# Altium integrated library Altera FLEX 10K.IntLib: 292 symbols (part 15 of 37)
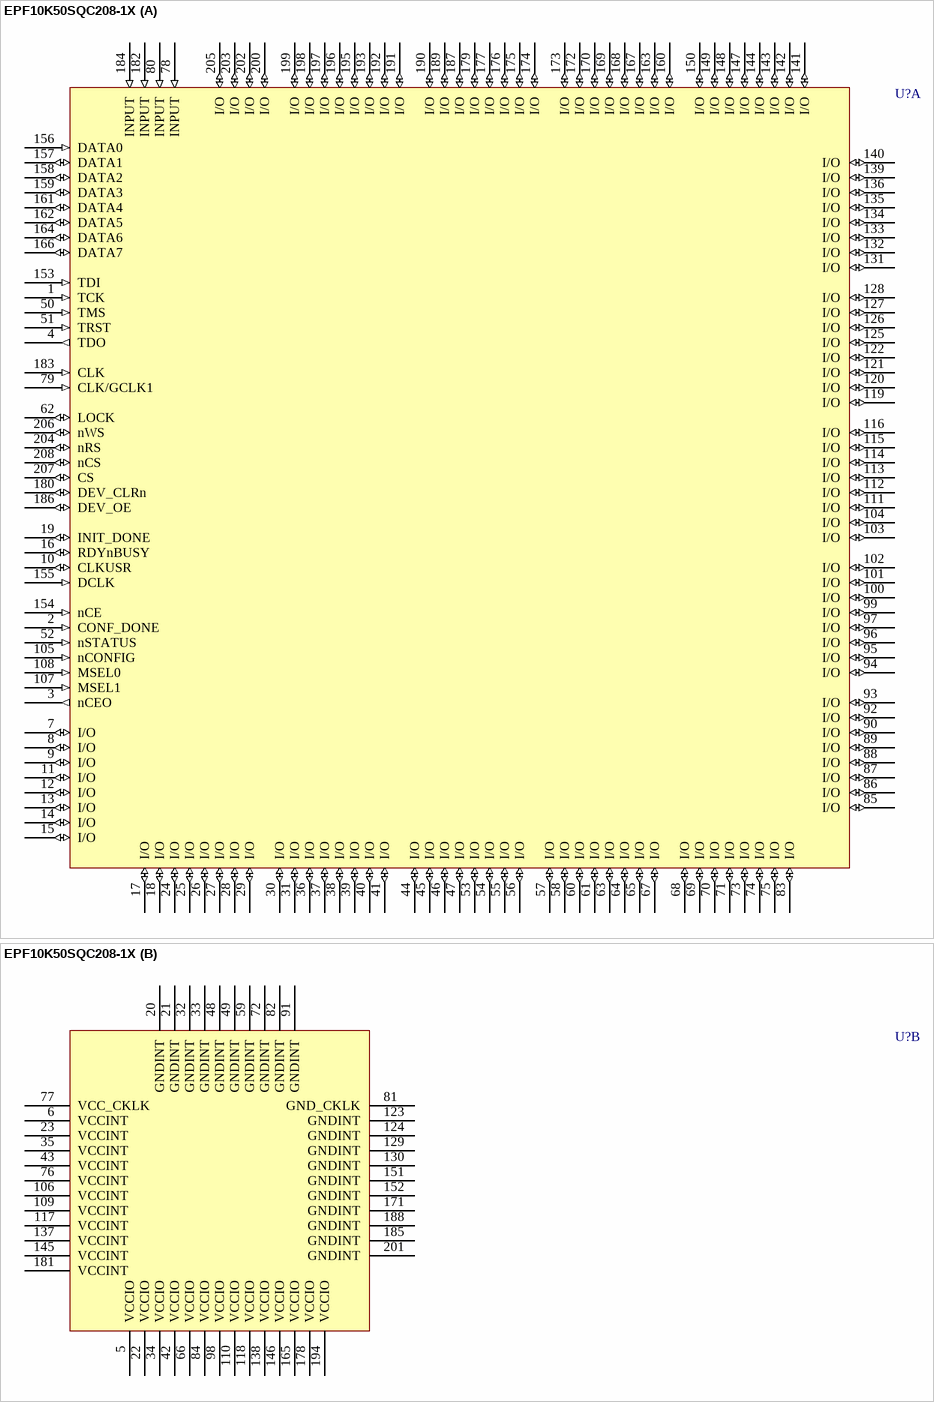
[diagram p413: symbol EPF10K50SQC208-1X]

## EPF10K50SQC208-1X
designator U?
FLEX EPF10K50S 2.5V Embedded PLD, 147 User IO Pins, 208-Pin PQFP, Speed Grade 1, Commercial Grade; Published: 17-Jul-2002; LatestRevisionDate: 13-Apr-2006; LatestRevisionNote: IPC-7351 Footprint Added.; DatasheetVersion: ver4.2, Jan-2003; PackageVersion: ver14.1, Oct-2005; PackageReference: PQFP208; Publisher: Altium Limited; PackageDescription: 208-Pin Plastic Quad Flat Pack (PQFP208); Code_JEDEC: MS-029-FA-1; ComponentLink1Description: Manufacturer Link; ComponentLink1URL: http://www.altera.com/products/devices/flex10k/f10-index.html; ComponentLink2Description: Datasheet; ComponentLink2URL: http://www.altera.com/literature/ds/dsf10ke.pdf
footprint PQFP208_N (Shrink QFP, 208-Leads, Body 28x28mm, Pitch 0.5mm, IPC Medium Density)
footprint PQFP208_L (Shrink QFP, 208-Leads, Body 28x28mm, Pitch 0.5mm, IPC High Density)
footprint PQFP208_M (Shrink QFP, 208-Leads, Body 28x28mm, Pitch 0.5mm, IPC Low Density)
3D model EPF10K50S-PQFP208 (208-Pin Plastic Quad Flat Pack (PQFP208))
part A pins: 1 TCK (in), 2 CONF_DONE (in), 3 nCEO (out), 4 TDO (out), 7 I/O (io), 8 I/O (io), 9 I/O (io), 10 CLKUSR (io), 11 I/O (io), 12 I/O (io), 13 I/O (io), 14 I/O (io), 15 I/O (io), 16 RDYnBUSY (io), 17 I/O (io), 18 I/O (io), 19 INIT_DONE (io), 24 I/O (io), 25 I/O (io), 26 I/O (io), 27 I/O (io), 28 I/O (io), 29 I/O (io), 30 I/O (io), 31 I/O (io), 36 I/O (io), 37 I/O (io), 38 I/O (io), 39 I/O (io), 40 I/O (io), 41 I/O (io), 44 I/O (io), 45 I/O (io), 46 I/O (io), 47 I/O (io), 50 TMS (in), 51 TRST (in), 52 nSTATUS (in), 53 I/O (io), 54 I/O (io), 55 I/O (io), 56 I/O (io), 57 I/O (io), 58 I/O (io), 60 I/O (io), 61 I/O (io), 62 LOCK (io), 63 I/O (io), 64 I/O (io), 65 I/O (io), 67 I/O (io), 68 I/O (io), 69 I/O (io), 70 I/O (io), 71 I/O (io), 73 I/O (io), 74 I/O (io), 75 I/O (io), 78 INPUT (in), 79 CLK/GCLK1 (in), 80 INPUT (in), 83 I/O (io), 85 I/O (io), 86 I/O (io), 87 I/O (io), 88 I/O (io), 89 I/O (io), 90 I/O (io), 92 I/O (io), 93 I/O (io), 94 I/O (io), 95 I/O (io), 96 I/O (io), 97 I/O (io), 99 I/O (io), 100 I/O (io), 101 I/O (io), 102 I/O (io), 103 I/O (io), 104 I/O (io), 105 nCONFIG (in), 107 MSEL1 (in), 108 MSEL0 (in), 111 I/O (io), 112 I/O (io), 113 I/O (io), 114 I/O (io), 115 I/O (io), 116 I/O (io), 119 I/O (io), 120 I/O (io), 121 I/O (io), 122 I/O (io), 125 I/O (io), 126 I/O (io), 127 I/O (io), 128 I/O (io), 131 I/O (io), 132 I/O (io), 133 I/O (io), 134 I/O (io), 135 I/O (io), 136 I/O (io), 139 I/O (io), 140 I/O (io), 141 I/O (io), 142 I/O (io), 143 I/O (io), 144 I/O (io), 147 I/O (io), 148 I/O (io), 149 I/O (io), 150 I/O (io), 153 TDI (in), 154 nCE (in), 155 DCLK (in), 156 DATA0 (in), 157 DATA1 (io), 158 DATA2 (io), 159 DATA3 (io), 160 I/O (io), 161 DATA4 (io), 162 DATA5 (io), 163 I/O (io), 164 DATA6 (io), 166 DATA7 (io), 167 I/O (io), 168 I/O (io), 169 I/O (io), 170 I/O (io), 172 I/O (io), 173 I/O (io), 174 I/O (io), 175 I/O (io), 176 I/O (io), 177 I/O (io), 179 I/O (io), 180 DEV_CLRn (io), 182 INPUT (in), 183 CLK (in), 184 INPUT (in), 186 DEV_OE (io), 187 I/O (io), 189 I/O (io), 190 I/O (io), 191 I/O (io), 192 I/O (io), 193 I/O (io), 195 I/O (io), 196 I/O (io), 197 I/O (io), 198 I/O (io), 199 I/O (io), 200 I/O (io), 202 I/O (io), 203 I/O (io), 204 nRS (io), 205 I/O (io), 206 nWS (io), 207 CS (io), 208 nCS (io)
part B pins: 5 VCCIO (power), 6 VCCINT (power), 20 GNDINT (power), 21 GNDINT (power), 22 VCCIO (power), 23 VCCINT (power), 32 GNDINT (power), 33 GNDINT (power), 34 VCCIO (power), 35 VCCINT (power), 42 VCCIO (power), 43 VCCINT (power), 48 GNDINT (power), 49 GNDINT (power), 59 GNDINT (power), 66 VCCIO (power), 72 GNDINT (power), 76 VCCINT (power), 77 VCC_CKLK (power), 81 GND_CKLK (power), 82 GNDINT (power), 84 VCCIO (power), 91 GNDINT (power), 98 VCCIO (power), 106 VCCINT (power), 109 VCCINT (power), 110 VCCIO (power), 117 VCCINT (power), 118 VCCIO (power), 123 GNDINT (power), 124 GNDINT (power), 129 GNDINT (power), 130 GNDINT (power), 137 VCCINT (power), 138 VCCIO (power), 145 VCCINT (power), 146 VCCIO (power), 151 GNDINT (power), 152 GNDINT (power), 165 VCCIO (power), 171 GNDINT (power), 178 VCCIO (power), 181 VCCINT (power), 185 GNDINT (power), 188 GNDINT (power), 194 VCCIO (power), 201 GNDINT (power)

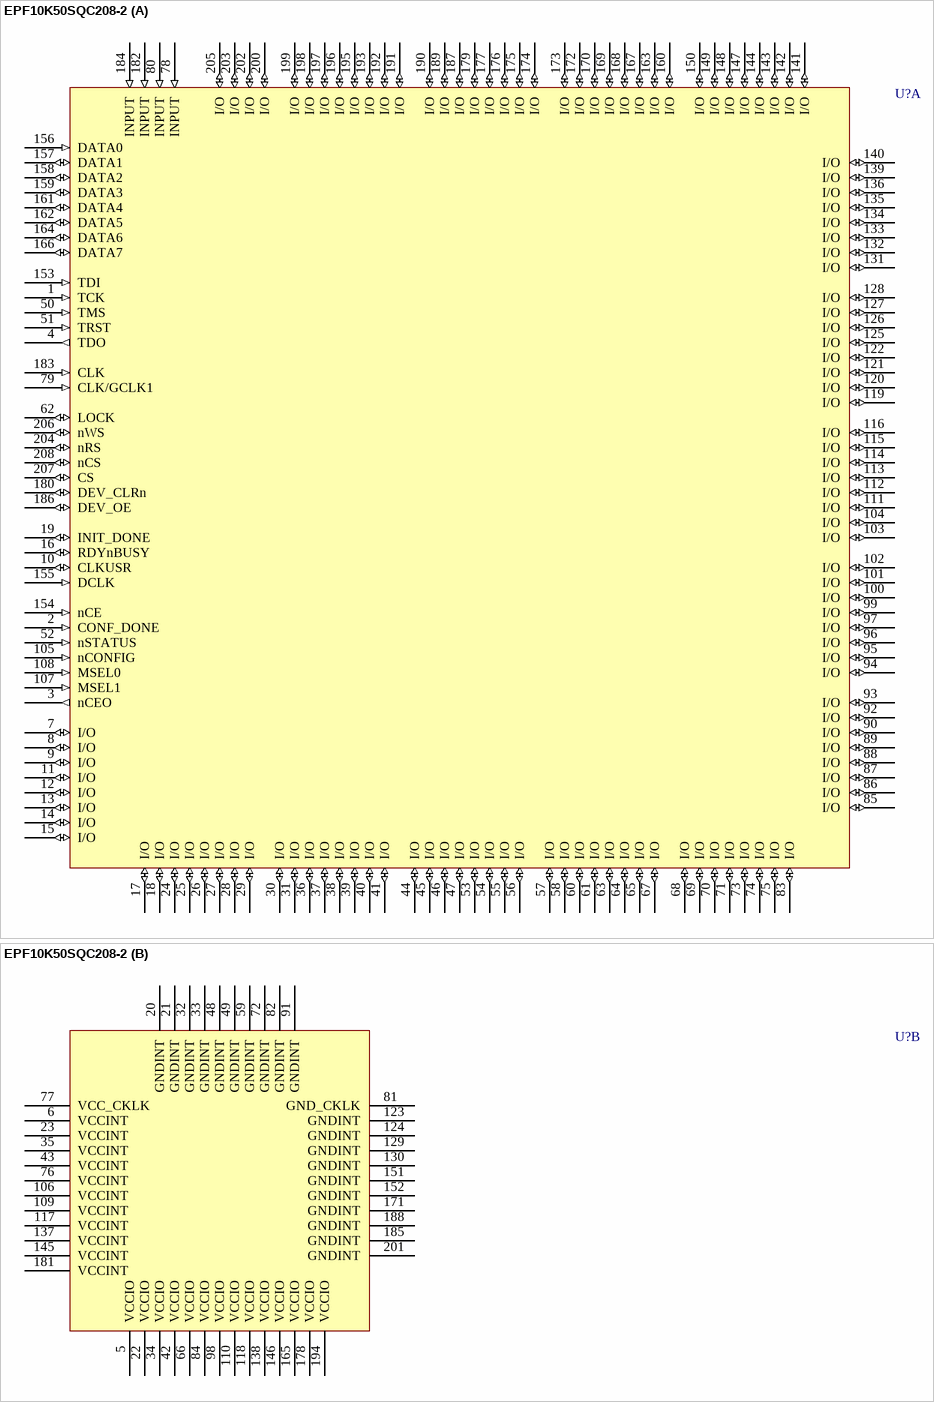
[diagram p143: symbol EPF10K50SQC208-2]

## EPF10K50SQC208-2
designator U?
FLEX EPF10K50S 2.5V Embedded PLD, 147 User IO Pins, 208-Pin PQFP, Speed Grade 2, Commercial Grade; Published: 17-Jul-2002; LatestRevisionDate: 13-Apr-2006; LatestRevisionNote: IPC-7351 Footprint Added.; DatasheetVersion: Jan-2001; PackageVersion: ver14.1, Oct-2005; PackageReference: PQFP208; Publisher: Altium Limited; PackageDescription: 208-Pin Plastic Quad Flat Pack (PQFP208); Code_JEDEC: MS-029-FA-1; ComponentLink1Description: Manufacturer Link; ComponentLink1URL: http://www.altera.com/products/devices/flex10k/f10-index.html; ComponentLink2Description: Datasheet; ComponentLink2URL: http://www.altera.com/literature/ds/dsf10ke.pdf
footprint PQFP208_N (Shrink QFP, 208-Leads, Body 28x28mm, Pitch 0.5mm, IPC Medium Density)
footprint PQFP208_L (Shrink QFP, 208-Leads, Body 28x28mm, Pitch 0.5mm, IPC High Density)
footprint PQFP208_M (Shrink QFP, 208-Leads, Body 28x28mm, Pitch 0.5mm, IPC Low Density)
3D model EPF10K50S-PQFP208 (208-Pin Plastic Quad Flat Pack (PQFP208))
part A pins: 1 TCK (in), 2 CONF_DONE (in), 3 nCEO (out), 4 TDO (out), 7 I/O (io), 8 I/O (io), 9 I/O (io), 10 CLKUSR (io), 11 I/O (io), 12 I/O (io), 13 I/O (io), 14 I/O (io), 15 I/O (io), 16 RDYnBUSY (io), 17 I/O (io), 18 I/O (io), 19 INIT_DONE (io), 24 I/O (io), 25 I/O (io), 26 I/O (io), 27 I/O (io), 28 I/O (io), 29 I/O (io), 30 I/O (io), 31 I/O (io), 36 I/O (io), 37 I/O (io), 38 I/O (io), 39 I/O (io), 40 I/O (io), 41 I/O (io), 44 I/O (io), 45 I/O (io), 46 I/O (io), 47 I/O (io), 50 TMS (in), 51 TRST (in), 52 nSTATUS (in), 53 I/O (io), 54 I/O (io), 55 I/O (io), 56 I/O (io), 57 I/O (io), 58 I/O (io), 60 I/O (io), 61 I/O (io), 62 LOCK (io), 63 I/O (io), 64 I/O (io), 65 I/O (io), 67 I/O (io), 68 I/O (io), 69 I/O (io), 70 I/O (io), 71 I/O (io), 73 I/O (io), 74 I/O (io), 75 I/O (io), 78 INPUT (in), 79 CLK/GCLK1 (in), 80 INPUT (in), 83 I/O (io), 85 I/O (io), 86 I/O (io), 87 I/O (io), 88 I/O (io), 89 I/O (io), 90 I/O (io), 92 I/O (io), 93 I/O (io), 94 I/O (io), 95 I/O (io), 96 I/O (io), 97 I/O (io), 99 I/O (io), 100 I/O (io), 101 I/O (io), 102 I/O (io), 103 I/O (io), 104 I/O (io), 105 nCONFIG (in), 107 MSEL1 (in), 108 MSEL0 (in), 111 I/O (io), 112 I/O (io), 113 I/O (io), 114 I/O (io), 115 I/O (io), 116 I/O (io), 119 I/O (io), 120 I/O (io), 121 I/O (io), 122 I/O (io), 125 I/O (io), 126 I/O (io), 127 I/O (io), 128 I/O (io), 131 I/O (io), 132 I/O (io), 133 I/O (io), 134 I/O (io), 135 I/O (io), 136 I/O (io), 139 I/O (io), 140 I/O (io), 141 I/O (io), 142 I/O (io), 143 I/O (io), 144 I/O (io), 147 I/O (io), 148 I/O (io), 149 I/O (io), 150 I/O (io), 153 TDI (in), 154 nCE (in), 155 DCLK (in), 156 DATA0 (in), 157 DATA1 (io), 158 DATA2 (io), 159 DATA3 (io), 160 I/O (io), 161 DATA4 (io), 162 DATA5 (io), 163 I/O (io), 164 DATA6 (io), 166 DATA7 (io), 167 I/O (io), 168 I/O (io), 169 I/O (io), 170 I/O (io), 172 I/O (io), 173 I/O (io), 174 I/O (io), 175 I/O (io), 176 I/O (io), 177 I/O (io), 179 I/O (io), 180 DEV_CLRn (io), 182 INPUT (in), 183 CLK (in), 184 INPUT (in), 186 DEV_OE (io), 187 I/O (io), 189 I/O (io), 190 I/O (io), 191 I/O (io), 192 I/O (io), 193 I/O (io), 195 I/O (io), 196 I/O (io), 197 I/O (io), 198 I/O (io), 199 I/O (io), 200 I/O (io), 202 I/O (io), 203 I/O (io), 204 nRS (io), 205 I/O (io), 206 nWS (io), 207 CS (io), 208 nCS (io)
part B pins: 5 VCCIO (power), 6 VCCINT (power), 20 GNDINT (power), 21 GNDINT (power), 22 VCCIO (power), 23 VCCINT (power), 32 GNDINT (power), 33 GNDINT (power), 34 VCCIO (power), 35 VCCINT (power), 42 VCCIO (power), 43 VCCINT (power), 48 GNDINT (power), 49 GNDINT (power), 59 GNDINT (power), 66 VCCIO (power), 72 GNDINT (power), 76 VCCINT (power), 77 VCC_CKLK (power), 81 GND_CKLK (power), 82 GNDINT (power), 84 VCCIO (power), 91 GNDINT (power), 98 VCCIO (power), 106 VCCINT (power), 109 VCCINT (power), 110 VCCIO (power), 117 VCCINT (power), 118 VCCIO (power), 123 GNDINT (power), 124 GNDINT (power), 129 GNDINT (power), 130 GNDINT (power), 137 VCCINT (power), 138 VCCIO (power), 145 VCCINT (power), 146 VCCIO (power), 151 GNDINT (power), 152 GNDINT (power), 165 VCCIO (power), 171 GNDINT (power), 178 VCCIO (power), 181 VCCINT (power), 185 GNDINT (power), 188 GNDINT (power), 194 VCCIO (power), 201 GNDINT (power)

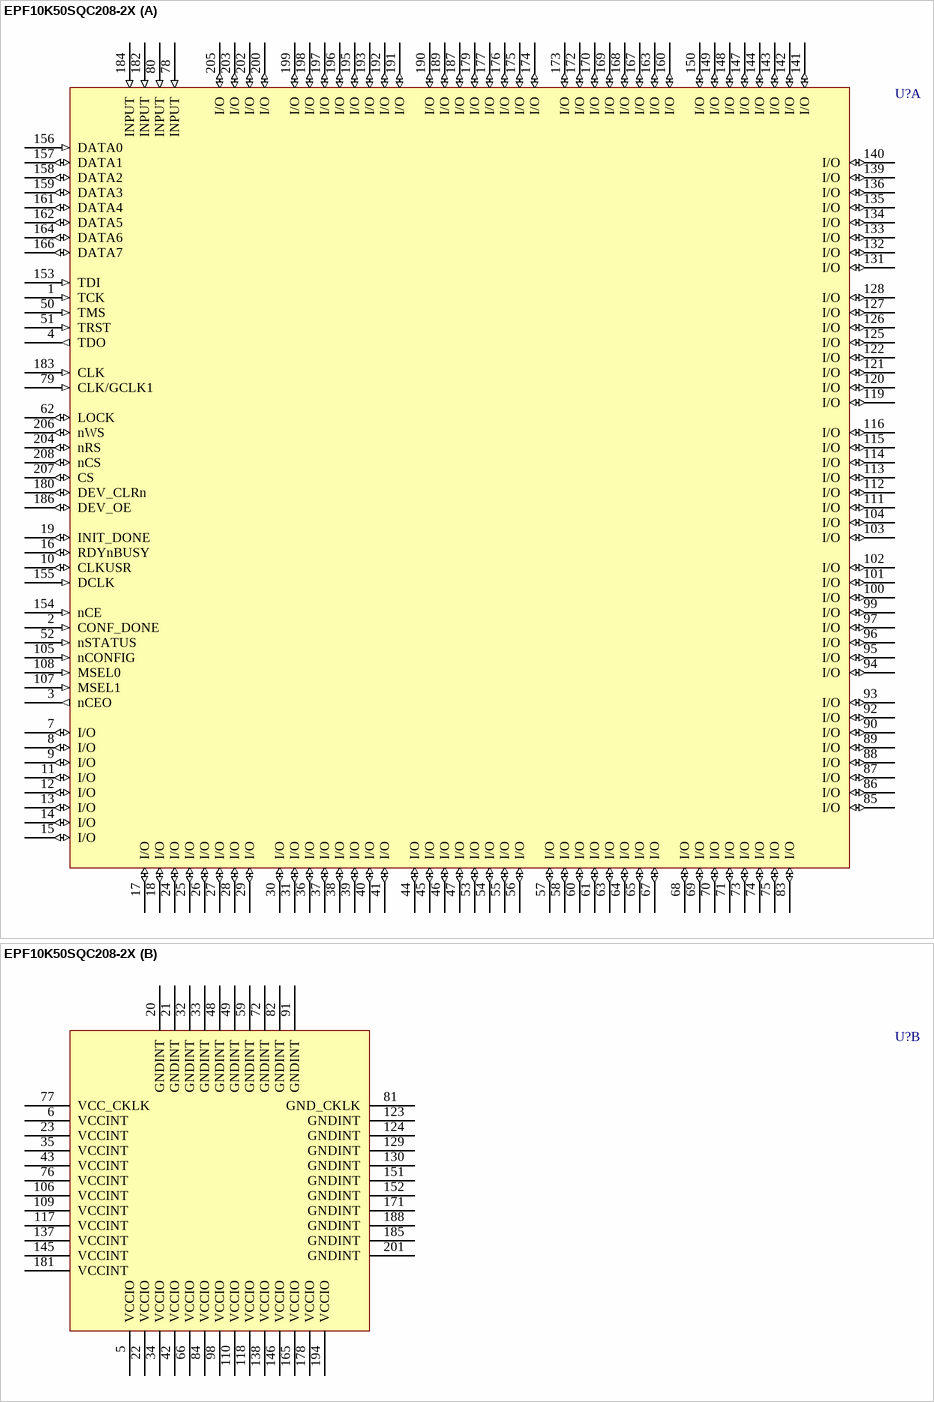
[diagram p144: symbol EPF10K50SQC208-2X]

## EPF10K50SQC208-2X
designator U?
FLEX EPF10K50S 2.5V Embedded PLD, 147 User IO Pins, 208-Pin PQFP, Speed Grade 2, Commercial Grade; Published: 17-Jul-2002; LatestRevisionDate: 13-Apr-2006; LatestRevisionNote: IPC-7351 Footprint Added.; DatasheetVersion: Jan-2001; PackageVersion: ver14.1, Oct-2005; PackageReference: PQFP208; Publisher: Altium Limited; PackageDescription: 208-Pin Plastic Quad Flat Pack (PQFP208); Code_JEDEC: MS-029-FA-1; ComponentLink1Description: Manufacturer Link; ComponentLink1URL: http://www.altera.com/products/devices/flex10k/f10-index.html; ComponentLink2Description: Datasheet; ComponentLink2URL: http://www.altera.com/literature/ds/dsf10ke.pdf
footprint PQFP208_N (Shrink QFP, 208-Leads, Body 28x28mm, Pitch 0.5mm, IPC Medium Density)
footprint PQFP208_L (Shrink QFP, 208-Leads, Body 28x28mm, Pitch 0.5mm, IPC High Density)
footprint PQFP208_M (Shrink QFP, 208-Leads, Body 28x28mm, Pitch 0.5mm, IPC Low Density)
3D model EPF10K50S-PQFP208 (208-Pin Plastic Quad Flat Pack (PQFP208))
part A pins: 1 TCK (in), 2 CONF_DONE (in), 3 nCEO (out), 4 TDO (out), 7 I/O (io), 8 I/O (io), 9 I/O (io), 10 CLKUSR (io), 11 I/O (io), 12 I/O (io), 13 I/O (io), 14 I/O (io), 15 I/O (io), 16 RDYnBUSY (io), 17 I/O (io), 18 I/O (io), 19 INIT_DONE (io), 24 I/O (io), 25 I/O (io), 26 I/O (io), 27 I/O (io), 28 I/O (io), 29 I/O (io), 30 I/O (io), 31 I/O (io), 36 I/O (io), 37 I/O (io), 38 I/O (io), 39 I/O (io), 40 I/O (io), 41 I/O (io), 44 I/O (io), 45 I/O (io), 46 I/O (io), 47 I/O (io), 50 TMS (in), 51 TRST (in), 52 nSTATUS (in), 53 I/O (io), 54 I/O (io), 55 I/O (io), 56 I/O (io), 57 I/O (io), 58 I/O (io), 60 I/O (io), 61 I/O (io), 62 LOCK (io), 63 I/O (io), 64 I/O (io), 65 I/O (io), 67 I/O (io), 68 I/O (io), 69 I/O (io), 70 I/O (io), 71 I/O (io), 73 I/O (io), 74 I/O (io), 75 I/O (io), 78 INPUT (in), 79 CLK/GCLK1 (in), 80 INPUT (in), 83 I/O (io), 85 I/O (io), 86 I/O (io), 87 I/O (io), 88 I/O (io), 89 I/O (io), 90 I/O (io), 92 I/O (io), 93 I/O (io), 94 I/O (io), 95 I/O (io), 96 I/O (io), 97 I/O (io), 99 I/O (io), 100 I/O (io), 101 I/O (io), 102 I/O (io), 103 I/O (io), 104 I/O (io), 105 nCONFIG (in), 107 MSEL1 (in), 108 MSEL0 (in), 111 I/O (io), 112 I/O (io), 113 I/O (io), 114 I/O (io), 115 I/O (io), 116 I/O (io), 119 I/O (io), 120 I/O (io), 121 I/O (io), 122 I/O (io), 125 I/O (io), 126 I/O (io), 127 I/O (io), 128 I/O (io), 131 I/O (io), 132 I/O (io), 133 I/O (io), 134 I/O (io), 135 I/O (io), 136 I/O (io), 139 I/O (io), 140 I/O (io), 141 I/O (io), 142 I/O (io), 143 I/O (io), 144 I/O (io), 147 I/O (io), 148 I/O (io), 149 I/O (io), 150 I/O (io), 153 TDI (in), 154 nCE (in), 155 DCLK (in), 156 DATA0 (in), 157 DATA1 (io), 158 DATA2 (io), 159 DATA3 (io), 160 I/O (io), 161 DATA4 (io), 162 DATA5 (io), 163 I/O (io), 164 DATA6 (io), 166 DATA7 (io), 167 I/O (io), 168 I/O (io), 169 I/O (io), 170 I/O (io), 172 I/O (io), 173 I/O (io), 174 I/O (io), 175 I/O (io), 176 I/O (io), 177 I/O (io), 179 I/O (io), 180 DEV_CLRn (io), 182 INPUT (in), 183 CLK (in), 184 INPUT (in), 186 DEV_OE (io), 187 I/O (io), 189 I/O (io), 190 I/O (io), 191 I/O (io), 192 I/O (io), 193 I/O (io), 195 I/O (io), 196 I/O (io), 197 I/O (io), 198 I/O (io), 199 I/O (io), 200 I/O (io), 202 I/O (io), 203 I/O (io), 204 nRS (io), 205 I/O (io), 206 nWS (io), 207 CS (io), 208 nCS (io)
part B pins: 5 VCCIO (power), 6 VCCINT (power), 20 GNDINT (power), 21 GNDINT (power), 22 VCCIO (power), 23 VCCINT (power), 32 GNDINT (power), 33 GNDINT (power), 34 VCCIO (power), 35 VCCINT (power), 42 VCCIO (power), 43 VCCINT (power), 48 GNDINT (power), 49 GNDINT (power), 59 GNDINT (power), 66 VCCIO (power), 72 GNDINT (power), 76 VCCINT (power), 77 VCC_CKLK (power), 81 GND_CKLK (power), 82 GNDINT (power), 84 VCCIO (power), 91 GNDINT (power), 98 VCCIO (power), 106 VCCINT (power), 109 VCCINT (power), 110 VCCIO (power), 117 VCCINT (power), 118 VCCIO (power), 123 GNDINT (power), 124 GNDINT (power), 129 GNDINT (power), 130 GNDINT (power), 137 VCCINT (power), 138 VCCIO (power), 145 VCCINT (power), 146 VCCIO (power), 151 GNDINT (power), 152 GNDINT (power), 165 VCCIO (power), 171 GNDINT (power), 178 VCCIO (power), 181 VCCINT (power), 185 GNDINT (power), 188 GNDINT (power), 194 VCCIO (power), 201 GNDINT (power)

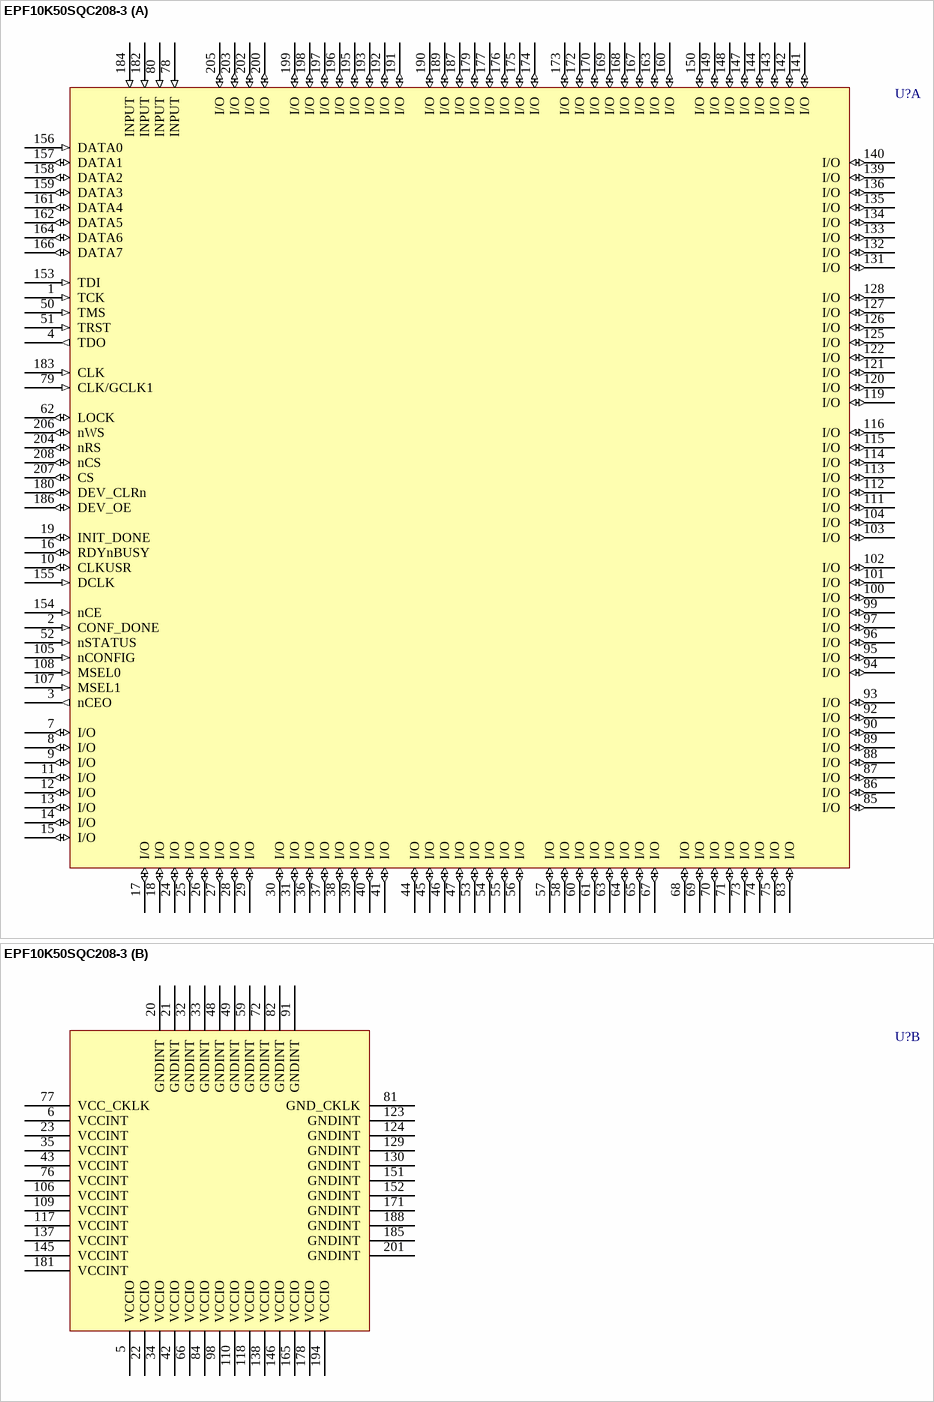
[diagram p145: symbol EPF10K50SQC208-3]

## EPF10K50SQC208-3
designator U?
FLEX EPF10K50S 2.5V Embedded PLD, 147 User IO Pins, 208-Pin PQFP, Speed Grade 3, Commercial Grade; Published: 17-Jul-2002; LatestRevisionDate: 13-Apr-2006; LatestRevisionNote: IPC-7351 Footprint Added.; DatasheetVersion: Jan-2001; PackageVersion: ver14.1, Oct-2005; PackageReference: PQFP208; Publisher: Altium Limited; PackageDescription: 208-Pin Plastic Quad Flat Pack (PQFP208); Code_JEDEC: MS-029-FA-1; ComponentLink1Description: Manufacturer Link; ComponentLink1URL: http://www.altera.com/products/devices/flex10k/f10-index.html; ComponentLink2Description: Datasheet; ComponentLink2URL: http://www.altera.com/literature/ds/dsf10ke.pdf
footprint PQFP208_N (Shrink QFP, 208-Leads, Body 28x28mm, Pitch 0.5mm, IPC Medium Density)
footprint PQFP208_L (Shrink QFP, 208-Leads, Body 28x28mm, Pitch 0.5mm, IPC High Density)
footprint PQFP208_M (Shrink QFP, 208-Leads, Body 28x28mm, Pitch 0.5mm, IPC Low Density)
3D model EPF10K50S-PQFP208 (208-Pin Plastic Quad Flat Pack (PQFP208))
part A pins: 1 TCK (in), 2 CONF_DONE (in), 3 nCEO (out), 4 TDO (out), 7 I/O (io), 8 I/O (io), 9 I/O (io), 10 CLKUSR (io), 11 I/O (io), 12 I/O (io), 13 I/O (io), 14 I/O (io), 15 I/O (io), 16 RDYnBUSY (io), 17 I/O (io), 18 I/O (io), 19 INIT_DONE (io), 24 I/O (io), 25 I/O (io), 26 I/O (io), 27 I/O (io), 28 I/O (io), 29 I/O (io), 30 I/O (io), 31 I/O (io), 36 I/O (io), 37 I/O (io), 38 I/O (io), 39 I/O (io), 40 I/O (io), 41 I/O (io), 44 I/O (io), 45 I/O (io), 46 I/O (io), 47 I/O (io), 50 TMS (in), 51 TRST (in), 52 nSTATUS (in), 53 I/O (io), 54 I/O (io), 55 I/O (io), 56 I/O (io), 57 I/O (io), 58 I/O (io), 60 I/O (io), 61 I/O (io), 62 LOCK (io), 63 I/O (io), 64 I/O (io), 65 I/O (io), 67 I/O (io), 68 I/O (io), 69 I/O (io), 70 I/O (io), 71 I/O (io), 73 I/O (io), 74 I/O (io), 75 I/O (io), 78 INPUT (in), 79 CLK/GCLK1 (in), 80 INPUT (in), 83 I/O (io), 85 I/O (io), 86 I/O (io), 87 I/O (io), 88 I/O (io), 89 I/O (io), 90 I/O (io), 92 I/O (io), 93 I/O (io), 94 I/O (io), 95 I/O (io), 96 I/O (io), 97 I/O (io), 99 I/O (io), 100 I/O (io), 101 I/O (io), 102 I/O (io), 103 I/O (io), 104 I/O (io), 105 nCONFIG (in), 107 MSEL1 (in), 108 MSEL0 (in), 111 I/O (io), 112 I/O (io), 113 I/O (io), 114 I/O (io), 115 I/O (io), 116 I/O (io), 119 I/O (io), 120 I/O (io), 121 I/O (io), 122 I/O (io), 125 I/O (io), 126 I/O (io), 127 I/O (io), 128 I/O (io), 131 I/O (io), 132 I/O (io), 133 I/O (io), 134 I/O (io), 135 I/O (io), 136 I/O (io), 139 I/O (io), 140 I/O (io), 141 I/O (io), 142 I/O (io), 143 I/O (io), 144 I/O (io), 147 I/O (io), 148 I/O (io), 149 I/O (io), 150 I/O (io), 153 TDI (in), 154 nCE (in), 155 DCLK (in), 156 DATA0 (in), 157 DATA1 (io), 158 DATA2 (io), 159 DATA3 (io), 160 I/O (io), 161 DATA4 (io), 162 DATA5 (io), 163 I/O (io), 164 DATA6 (io), 166 DATA7 (io), 167 I/O (io), 168 I/O (io), 169 I/O (io), 170 I/O (io), 172 I/O (io), 173 I/O (io), 174 I/O (io), 175 I/O (io), 176 I/O (io), 177 I/O (io), 179 I/O (io), 180 DEV_CLRn (io), 182 INPUT (in), 183 CLK (in), 184 INPUT (in), 186 DEV_OE (io), 187 I/O (io), 189 I/O (io), 190 I/O (io), 191 I/O (io), 192 I/O (io), 193 I/O (io), 195 I/O (io), 196 I/O (io), 197 I/O (io), 198 I/O (io), 199 I/O (io), 200 I/O (io), 202 I/O (io), 203 I/O (io), 204 nRS (io), 205 I/O (io), 206 nWS (io), 207 CS (io), 208 nCS (io)
part B pins: 5 VCCIO (power), 6 VCCINT (power), 20 GNDINT (power), 21 GNDINT (power), 22 VCCIO (power), 23 VCCINT (power), 32 GNDINT (power), 33 GNDINT (power), 34 VCCIO (power), 35 VCCINT (power), 42 VCCIO (power), 43 VCCINT (power), 48 GNDINT (power), 49 GNDINT (power), 59 GNDINT (power), 66 VCCIO (power), 72 GNDINT (power), 76 VCCINT (power), 77 VCC_CKLK (power), 81 GND_CKLK (power), 82 GNDINT (power), 84 VCCIO (power), 91 GNDINT (power), 98 VCCIO (power), 106 VCCINT (power), 109 VCCINT (power), 110 VCCIO (power), 117 VCCINT (power), 118 VCCIO (power), 123 GNDINT (power), 124 GNDINT (power), 129 GNDINT (power), 130 GNDINT (power), 137 VCCINT (power), 138 VCCIO (power), 145 VCCINT (power), 146 VCCIO (power), 151 GNDINT (power), 152 GNDINT (power), 165 VCCIO (power), 171 GNDINT (power), 178 VCCIO (power), 181 VCCINT (power), 185 GNDINT (power), 188 GNDINT (power), 194 VCCIO (power), 201 GNDINT (power)

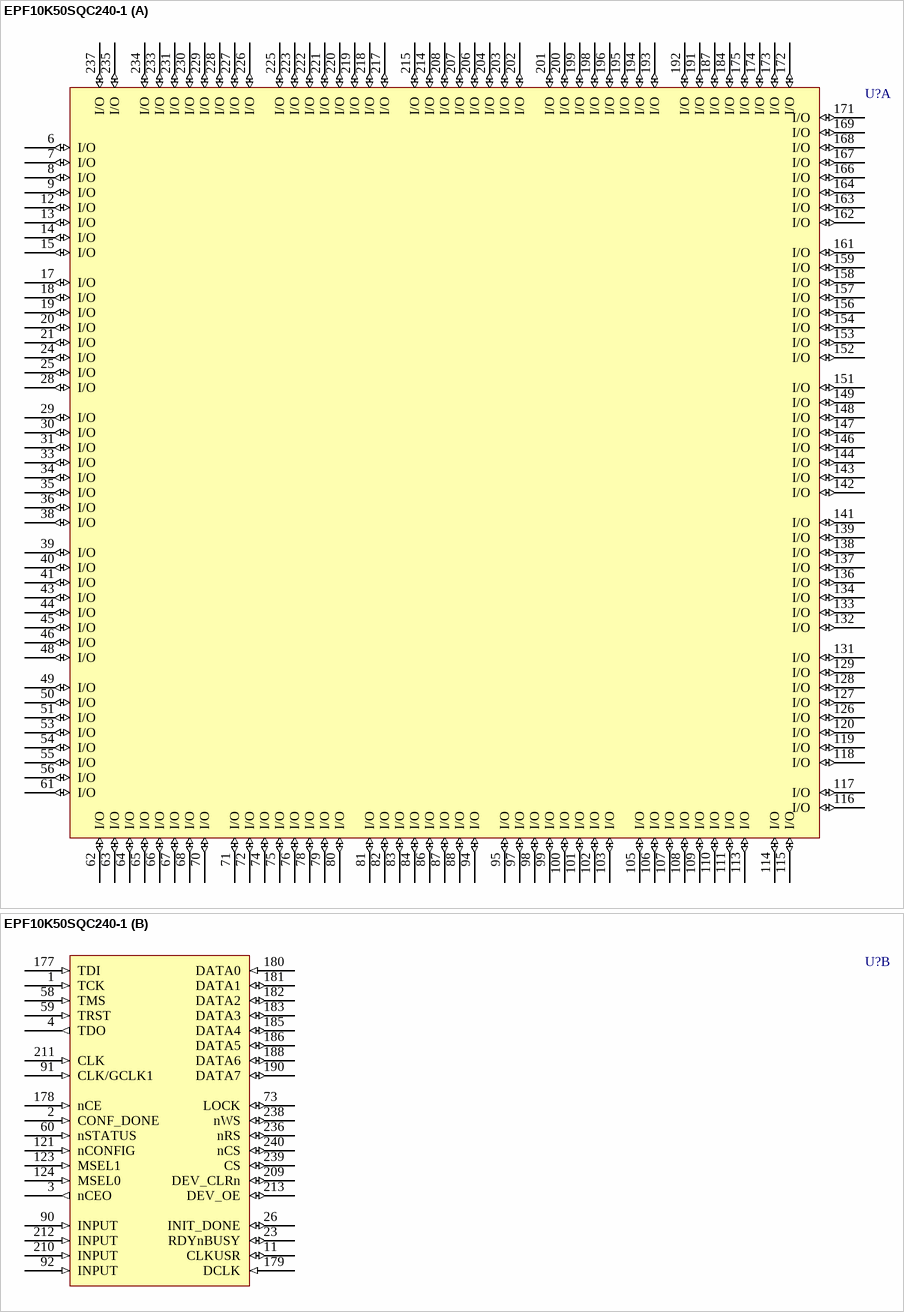
[diagram p146: symbol EPF10K50SQC240-1]

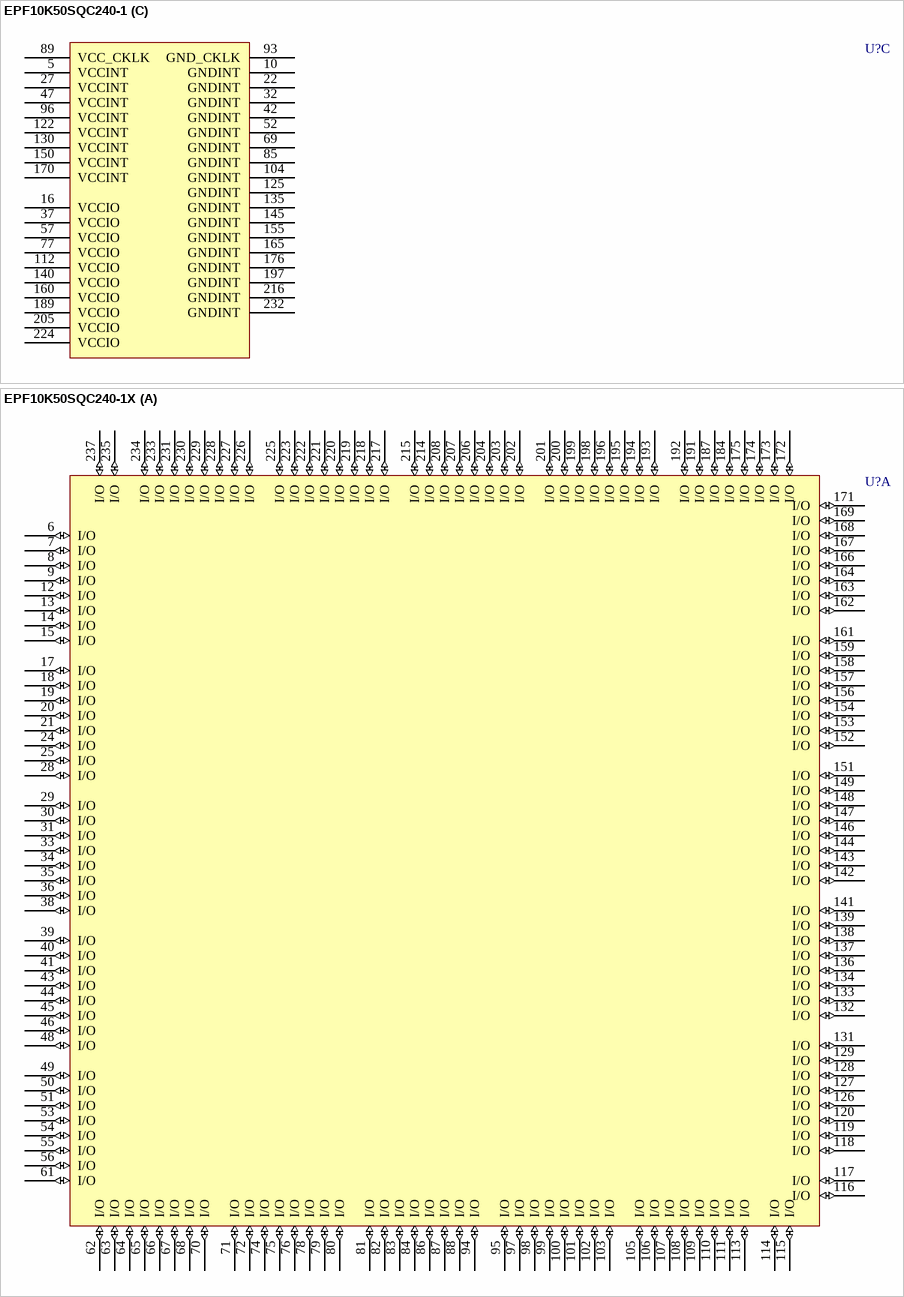
[diagram p147: symbols EPF10K50SQC240-1 to EPF10K50SQC240-1X]

## EPF10K50SQC240-1
designator U?
FLEX EPF10K50S 2.5V Embedded PLD, 189 User IO Pins, 240-Pin PQFP, Speed Grade 1, Commercial Grade; Published: 17-Jul-2002; LatestRevisionDate: 13-Apr-2006; LatestRevisionNote: IPC-7351 Footprint Added.; DatasheetVersion: ver4.2, Jan-2003; PackageVersion: ver14.1, Oct-2005; PackageReference: PQFP240; Publisher: Altium Limited; PackageDescription: 240-Pin Plastic Quad Flat Pack (PQFP240); Code_JEDEC: MS-029-GA; ComponentLink1Description: Manufacturer Link; ComponentLink1URL: http://www.altera.com/products/devices/flex10k/f10-index.html; ComponentLink2Description: Datasheet; ComponentLink2URL: http://www.altera.com/literature/ds/dsf10ke.pdf
footprint PQFP240_N (Shrink QFP, 240-Leads, Body 32x32mm, Pitch 0.5mm, IPC Medium Density)
footprint PQFP240_L (Shrink QFP, 240-Leads, Body 32x32mm, Pitch 0.5mm, IPC High Density)
footprint PQFP240_M (Shrink QFP, 240-Leads, Body 32x32mm, Pitch 0.5mm, IPC Low Density)
3D model EPF10K50S-PQFP240 (240-Pin Plastic Quad Flat Pack (PQFP240))
part A pins: 6 I/O (io), 7 I/O (io), 8 I/O (io), 9 I/O (io), 12 I/O (io), 13 I/O (io), 14 I/O (io), 15 I/O (io), 17 I/O (io), 18 I/O (io), 19 I/O (io), 20 I/O (io), 21 I/O (io), 24 I/O (io), 25 I/O (io), 28 I/O (io), 29 I/O (io), 30 I/O (io), 31 I/O (io), 33 I/O (io), 34 I/O (io), 35 I/O (io), 36 I/O (io), 38 I/O (io), 39 I/O (io), 40 I/O (io), 41 I/O (io), 43 I/O (io), 44 I/O (io), 45 I/O (io), 46 I/O (io), 48 I/O (io), 49 I/O (io), 50 I/O (io), 51 I/O (io), 53 I/O (io), 54 I/O (io), 55 I/O (io), 56 I/O (io), 61 I/O (io), 62 I/O (io), 63 I/O (io), 64 I/O (io), 65 I/O (io), 66 I/O (io), 67 I/O (io), 68 I/O (io), 70 I/O (io), 71 I/O (io), 72 I/O (io), 74 I/O (io), 75 I/O (io), 76 I/O (io), 78 I/O (io), 79 I/O (io), 80 I/O (io), 81 I/O (io), 82 I/O (io), 83 I/O (io), 84 I/O (io), 86 I/O (io), 87 I/O (io), 88 I/O (io), 94 I/O (io), 95 I/O (io), 97 I/O (io), 98 I/O (io), 99 I/O (io), 100 I/O (io), 101 I/O (io), 102 I/O (io), 103 I/O (io), 105 I/O (io), 106 I/O (io), 107 I/O (io), 108 I/O (io), 109 I/O (io), 110 I/O (io), 111 I/O (io), 113 I/O (io), 114 I/O (io), 115 I/O (io), 116 I/O (io), 117 I/O (io), 118 I/O (io), 119 I/O (io), 120 I/O (io), 126 I/O (io), 127 I/O (io), 128 I/O (io), 129 I/O (io), 131 I/O (io), 132 I/O (io), 133 I/O (io), 134 I/O (io), 136 I/O (io), 137 I/O (io), 138 I/O (io), 139 I/O (io), 141 I/O (io), 142 I/O (io), 143 I/O (io), 144 I/O (io), 146 I/O (io), 147 I/O (io), 148 I/O (io), 149 I/O (io), 151 I/O (io), 152 I/O (io), 153 I/O (io), 154 I/O (io), 156 I/O (io), 157 I/O (io), 158 I/O (io), 159 I/O (io), 161 I/O (io), 162 I/O (io), 163 I/O (io), 164 I/O (io), 166 I/O (io), 167 I/O (io), 168 I/O (io), 169 I/O (io), 171 I/O (io), 172 I/O (io), 173 I/O (io), 174 I/O (io), 175 I/O (io), 184 I/O (io), 187 I/O (io), 191 I/O (io), 192 I/O (io), 193 I/O (io), 194 I/O (io), 195 I/O (io), 196 I/O (io), 198 I/O (io), 199 I/O (io), 200 I/O (io), 201 I/O (io), 202 I/O (io), 203 I/O (io), 204 I/O (io), 206 I/O (io), 207 I/O (io), 208 I/O (io), 214 I/O (io), 215 I/O (io), 217 I/O (io), 218 I/O (io), 219 I/O (io), 220 I/O (io), 221 I/O (io), 222 I/O (io), 223 I/O (io), 225 I/O (io), 226 I/O (io), 227 I/O (io), 228 I/O (io), 229 I/O (io), 230 I/O (io), 231 I/O (io), 233 I/O (io), 234 I/O (io), 235 I/O (io), 237 I/O (io)
part B pins: 1 TCK (in), 2 CONF_DONE (in), 3 nCEO (out), 4 TDO (out), 11 CLKUSR (io), 23 RDYnBUSY (io), 26 INIT_DONE (io), 58 TMS (in), 59 TRST (in), 60 nSTATUS (in), 73 LOCK (io), 90 INPUT (in), 91 CLK/GCLK1 (in), 92 INPUT (in), 121 nCONFIG (in), 123 MSEL1 (in), 124 MSEL0 (in), 177 TDI (in), 178 nCE (in), 179 DCLK (in), 180 DATA0 (in), 181 DATA1 (io), 182 DATA2 (io), 183 DATA3 (io), 185 DATA4 (io), 186 DATA5 (io), 188 DATA6 (io), 190 DATA7 (io), 209 DEV_CLRn (io), 210 INPUT (in), 211 CLK (in), 212 INPUT (in), 213 DEV_OE (io), 236 nRS (io), 238 nWS (io), 239 CS (io), 240 nCS (io)
part C pins: 5 VCCINT (power), 10 GNDINT (power), 16 VCCIO (power), 22 GNDINT (power), 27 VCCINT (power), 32 GNDINT (power), 37 VCCIO (power), 42 GNDINT (power), 47 VCCINT (power), 52 GNDINT (power), 57 VCCIO (power), 69 GNDINT (power), 77 VCCIO (power), 85 GNDINT (power), 89 VCC_CKLK (power), 93 GND_CKLK (power), 96 VCCINT (power), 104 GNDINT (power), 112 VCCIO (power), 122 VCCINT (power), 125 GNDINT (power), 130 VCCINT (power), 135 GNDINT (power), 140 VCCIO (power), 145 GNDINT (power), 150 VCCINT (power), 155 GNDINT (power), 160 VCCIO (power), 165 GNDINT (power), 170 VCCINT (power), 176 GNDINT (power), 189 VCCIO (power), 197 GNDINT (power), 205 VCCIO (power), 216 GNDINT (power), 224 VCCIO (power), 232 GNDINT (power)

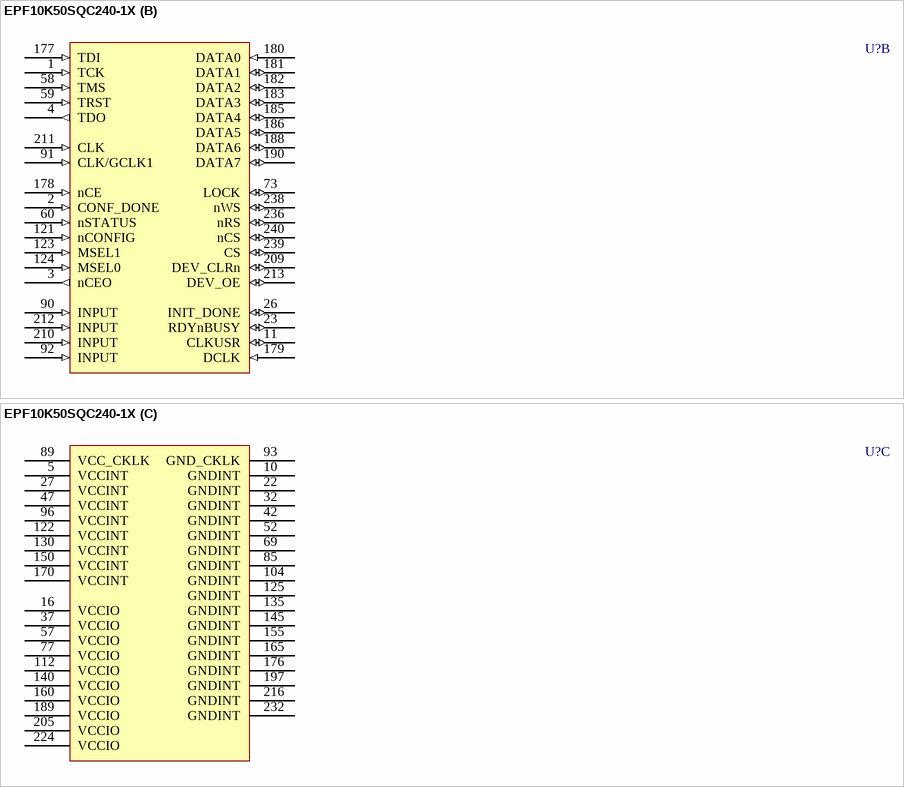
[diagram p148: symbol EPF10K50SQC240-1X]

## EPF10K50SQC240-1X
designator U?
FLEX EPF10K50S 2.5V Embedded PLD, 189 User IO Pins, 240-Pin PQFP, Speed Grade 1, Commercial Grade; Published: 17-Jul-2002; LatestRevisionDate: 13-Apr-2006; LatestRevisionNote: IPC-7351 Footprint Added.; DatasheetVersion: ver4.2, Jan-2003; PackageVersion: ver14.1, Oct-2005; PackageReference: PQFP240; Publisher: Altium Limited; PackageDescription: 240-Pin Plastic Quad Flat Pack (PQFP240); Code_JEDEC: MS-029-GA; ComponentLink1Description: Manufacturer Link; ComponentLink1URL: http://www.altera.com/products/devices/flex10k/f10-index.html; ComponentLink2Description: Datasheet; ComponentLink2URL: http://www.altera.com/literature/ds/dsf10ke.pdf
footprint PQFP240_N (Shrink QFP, 240-Leads, Body 32x32mm, Pitch 0.5mm, IPC Medium Density)
footprint PQFP240_L (Shrink QFP, 240-Leads, Body 32x32mm, Pitch 0.5mm, IPC High Density)
footprint PQFP240_M (Shrink QFP, 240-Leads, Body 32x32mm, Pitch 0.5mm, IPC Low Density)
3D model EPF10K50S-PQFP240 (240-Pin Plastic Quad Flat Pack (PQFP240))
part A pins: 6 I/O (io), 7 I/O (io), 8 I/O (io), 9 I/O (io), 12 I/O (io), 13 I/O (io), 14 I/O (io), 15 I/O (io), 17 I/O (io), 18 I/O (io), 19 I/O (io), 20 I/O (io), 21 I/O (io), 24 I/O (io), 25 I/O (io), 28 I/O (io), 29 I/O (io), 30 I/O (io), 31 I/O (io), 33 I/O (io), 34 I/O (io), 35 I/O (io), 36 I/O (io), 38 I/O (io), 39 I/O (io), 40 I/O (io), 41 I/O (io), 43 I/O (io), 44 I/O (io), 45 I/O (io), 46 I/O (io), 48 I/O (io), 49 I/O (io), 50 I/O (io), 51 I/O (io), 53 I/O (io), 54 I/O (io), 55 I/O (io), 56 I/O (io), 61 I/O (io), 62 I/O (io), 63 I/O (io), 64 I/O (io), 65 I/O (io), 66 I/O (io), 67 I/O (io), 68 I/O (io), 70 I/O (io), 71 I/O (io), 72 I/O (io), 74 I/O (io), 75 I/O (io), 76 I/O (io), 78 I/O (io), 79 I/O (io), 80 I/O (io), 81 I/O (io), 82 I/O (io), 83 I/O (io), 84 I/O (io), 86 I/O (io), 87 I/O (io), 88 I/O (io), 94 I/O (io), 95 I/O (io), 97 I/O (io), 98 I/O (io), 99 I/O (io), 100 I/O (io), 101 I/O (io), 102 I/O (io), 103 I/O (io), 105 I/O (io), 106 I/O (io), 107 I/O (io), 108 I/O (io), 109 I/O (io), 110 I/O (io), 111 I/O (io), 113 I/O (io), 114 I/O (io), 115 I/O (io), 116 I/O (io), 117 I/O (io), 118 I/O (io), 119 I/O (io), 120 I/O (io), 126 I/O (io), 127 I/O (io), 128 I/O (io), 129 I/O (io), 131 I/O (io), 132 I/O (io), 133 I/O (io), 134 I/O (io), 136 I/O (io), 137 I/O (io), 138 I/O (io), 139 I/O (io), 141 I/O (io), 142 I/O (io), 143 I/O (io), 144 I/O (io), 146 I/O (io), 147 I/O (io), 148 I/O (io), 149 I/O (io), 151 I/O (io), 152 I/O (io), 153 I/O (io), 154 I/O (io), 156 I/O (io), 157 I/O (io), 158 I/O (io), 159 I/O (io), 161 I/O (io), 162 I/O (io), 163 I/O (io), 164 I/O (io), 166 I/O (io), 167 I/O (io), 168 I/O (io), 169 I/O (io), 171 I/O (io), 172 I/O (io), 173 I/O (io), 174 I/O (io), 175 I/O (io), 184 I/O (io), 187 I/O (io), 191 I/O (io), 192 I/O (io), 193 I/O (io), 194 I/O (io), 195 I/O (io), 196 I/O (io), 198 I/O (io), 199 I/O (io), 200 I/O (io), 201 I/O (io), 202 I/O (io), 203 I/O (io), 204 I/O (io), 206 I/O (io), 207 I/O (io), 208 I/O (io), 214 I/O (io), 215 I/O (io), 217 I/O (io), 218 I/O (io), 219 I/O (io), 220 I/O (io), 221 I/O (io), 222 I/O (io), 223 I/O (io), 225 I/O (io), 226 I/O (io), 227 I/O (io), 228 I/O (io), 229 I/O (io), 230 I/O (io), 231 I/O (io), 233 I/O (io), 234 I/O (io), 235 I/O (io), 237 I/O (io)
part B pins: 1 TCK (in), 2 CONF_DONE (in), 3 nCEO (out), 4 TDO (out), 11 CLKUSR (io), 23 RDYnBUSY (io), 26 INIT_DONE (io), 58 TMS (in), 59 TRST (in), 60 nSTATUS (in), 73 LOCK (io), 90 INPUT (in), 91 CLK/GCLK1 (in), 92 INPUT (in), 121 nCONFIG (in), 123 MSEL1 (in), 124 MSEL0 (in), 177 TDI (in), 178 nCE (in), 179 DCLK (in), 180 DATA0 (in), 181 DATA1 (io), 182 DATA2 (io), 183 DATA3 (io), 185 DATA4 (io), 186 DATA5 (io), 188 DATA6 (io), 190 DATA7 (io), 209 DEV_CLRn (io), 210 INPUT (in), 211 CLK (in), 212 INPUT (in), 213 DEV_OE (io), 236 nRS (io), 238 nWS (io), 239 CS (io), 240 nCS (io)
part C pins: 5 VCCINT (power), 10 GNDINT (power), 16 VCCIO (power), 22 GNDINT (power), 27 VCCINT (power), 32 GNDINT (power), 37 VCCIO (power), 42 GNDINT (power), 47 VCCINT (power), 52 GNDINT (power), 57 VCCIO (power), 69 GNDINT (power), 77 VCCIO (power), 85 GNDINT (power), 89 VCC_CKLK (power), 93 GND_CKLK (power), 96 VCCINT (power), 104 GNDINT (power), 112 VCCIO (power), 122 VCCINT (power), 125 GNDINT (power), 130 VCCINT (power), 135 GNDINT (power), 140 VCCIO (power), 145 GNDINT (power), 150 VCCINT (power), 155 GNDINT (power), 160 VCCIO (power), 165 GNDINT (power), 170 VCCINT (power), 176 GNDINT (power), 189 VCCIO (power), 197 GNDINT (power), 205 VCCIO (power), 216 GNDINT (power), 224 VCCIO (power), 232 GNDINT (power)

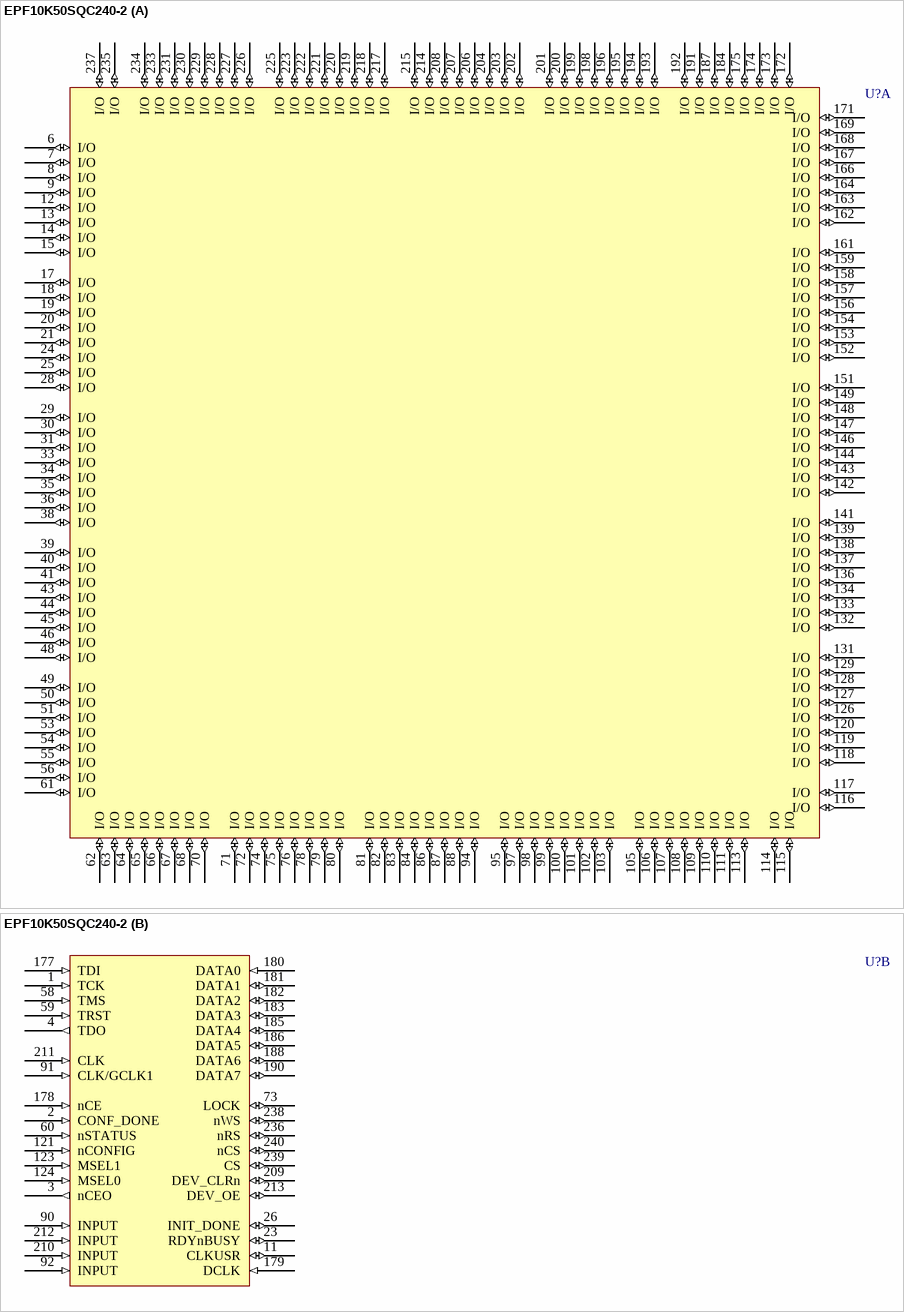
[diagram p149: symbol EPF10K50SQC240-2]

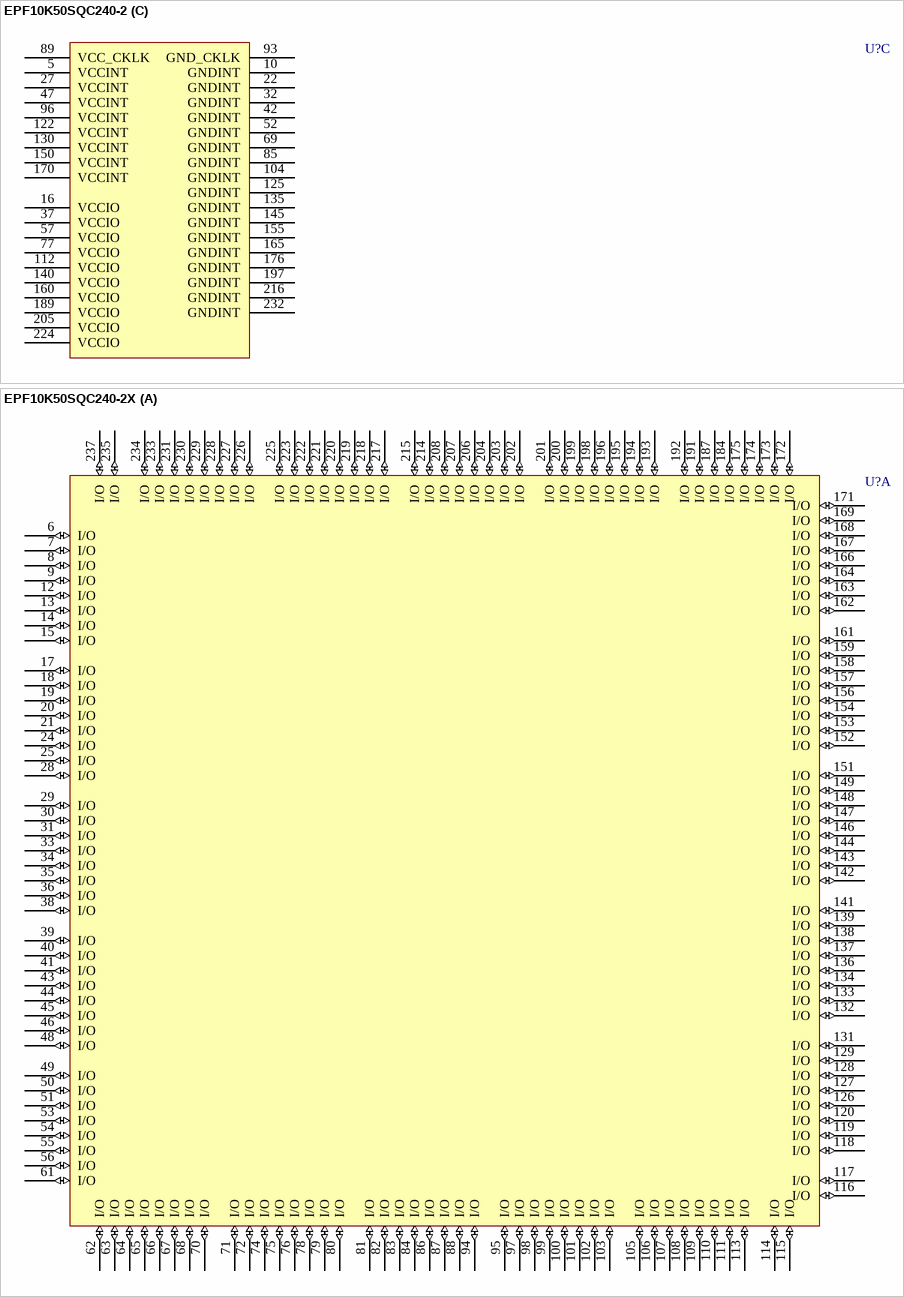
[diagram p150: symbols EPF10K50SQC240-2 to EPF10K50SQC240-2X]

## EPF10K50SQC240-2
designator U?
FLEX EPF10K50S 2.5V Embedded PLD, 189 User IO Pins, 240-Pin PQFP, Speed Grade 2, Commercial Grade; Published: 17-Jul-2002; LatestRevisionDate: 13-Apr-2006; LatestRevisionNote: IPC-7351 Footprint Added.; DatasheetVersion: ver4.2, Jan-2003; PackageVersion: ver14.1, Oct-2005; PackageReference: PQFP240; Publisher: Altium Limited; PackageDescription: 240-Pin Plastic Quad Flat Pack (PQFP240); Code_JEDEC: MS-029-GA; ComponentLink1Description: Manufacturer Link; ComponentLink1URL: http://www.altera.com/products/devices/flex10k/f10-index.html; ComponentLink2Description: Datasheet; ComponentLink2URL: http://www.altera.com/literature/ds/dsf10ke.pdf
footprint PQFP240_N (Shrink QFP, 240-Leads, Body 32x32mm, Pitch 0.5mm, IPC Medium Density)
footprint PQFP240_L (Shrink QFP, 240-Leads, Body 32x32mm, Pitch 0.5mm, IPC High Density)
footprint PQFP240_M (Shrink QFP, 240-Leads, Body 32x32mm, Pitch 0.5mm, IPC Low Density)
3D model EPF10K50S-PQFP240 (240-Pin Plastic Quad Flat Pack (PQFP240))
part A pins: 6 I/O (io), 7 I/O (io), 8 I/O (io), 9 I/O (io), 12 I/O (io), 13 I/O (io), 14 I/O (io), 15 I/O (io), 17 I/O (io), 18 I/O (io), 19 I/O (io), 20 I/O (io), 21 I/O (io), 24 I/O (io), 25 I/O (io), 28 I/O (io), 29 I/O (io), 30 I/O (io), 31 I/O (io), 33 I/O (io), 34 I/O (io), 35 I/O (io), 36 I/O (io), 38 I/O (io), 39 I/O (io), 40 I/O (io), 41 I/O (io), 43 I/O (io), 44 I/O (io), 45 I/O (io), 46 I/O (io), 48 I/O (io), 49 I/O (io), 50 I/O (io), 51 I/O (io), 53 I/O (io), 54 I/O (io), 55 I/O (io), 56 I/O (io), 61 I/O (io), 62 I/O (io), 63 I/O (io), 64 I/O (io), 65 I/O (io), 66 I/O (io), 67 I/O (io), 68 I/O (io), 70 I/O (io), 71 I/O (io), 72 I/O (io), 74 I/O (io), 75 I/O (io), 76 I/O (io), 78 I/O (io), 79 I/O (io), 80 I/O (io), 81 I/O (io), 82 I/O (io), 83 I/O (io), 84 I/O (io), 86 I/O (io), 87 I/O (io), 88 I/O (io), 94 I/O (io), 95 I/O (io), 97 I/O (io), 98 I/O (io), 99 I/O (io), 100 I/O (io), 101 I/O (io), 102 I/O (io), 103 I/O (io), 105 I/O (io), 106 I/O (io), 107 I/O (io), 108 I/O (io), 109 I/O (io), 110 I/O (io), 111 I/O (io), 113 I/O (io), 114 I/O (io), 115 I/O (io), 116 I/O (io), 117 I/O (io), 118 I/O (io), 119 I/O (io), 120 I/O (io), 126 I/O (io), 127 I/O (io), 128 I/O (io), 129 I/O (io), 131 I/O (io), 132 I/O (io), 133 I/O (io), 134 I/O (io), 136 I/O (io), 137 I/O (io), 138 I/O (io), 139 I/O (io), 141 I/O (io), 142 I/O (io), 143 I/O (io), 144 I/O (io), 146 I/O (io), 147 I/O (io), 148 I/O (io), 149 I/O (io), 151 I/O (io), 152 I/O (io), 153 I/O (io), 154 I/O (io), 156 I/O (io), 157 I/O (io), 158 I/O (io), 159 I/O (io), 161 I/O (io), 162 I/O (io), 163 I/O (io), 164 I/O (io), 166 I/O (io), 167 I/O (io), 168 I/O (io), 169 I/O (io), 171 I/O (io), 172 I/O (io), 173 I/O (io), 174 I/O (io), 175 I/O (io), 184 I/O (io), 187 I/O (io), 191 I/O (io), 192 I/O (io), 193 I/O (io), 194 I/O (io), 195 I/O (io), 196 I/O (io), 198 I/O (io), 199 I/O (io), 200 I/O (io), 201 I/O (io), 202 I/O (io), 203 I/O (io), 204 I/O (io), 206 I/O (io), 207 I/O (io), 208 I/O (io), 214 I/O (io), 215 I/O (io), 217 I/O (io), 218 I/O (io), 219 I/O (io), 220 I/O (io), 221 I/O (io), 222 I/O (io), 223 I/O (io), 225 I/O (io), 226 I/O (io), 227 I/O (io), 228 I/O (io), 229 I/O (io), 230 I/O (io), 231 I/O (io), 233 I/O (io), 234 I/O (io), 235 I/O (io), 237 I/O (io)
part B pins: 1 TCK (in), 2 CONF_DONE (in), 3 nCEO (out), 4 TDO (out), 11 CLKUSR (io), 23 RDYnBUSY (io), 26 INIT_DONE (io), 58 TMS (in), 59 TRST (in), 60 nSTATUS (in), 73 LOCK (io), 90 INPUT (in), 91 CLK/GCLK1 (in), 92 INPUT (in), 121 nCONFIG (in), 123 MSEL1 (in), 124 MSEL0 (in), 177 TDI (in), 178 nCE (in), 179 DCLK (in), 180 DATA0 (in), 181 DATA1 (io), 182 DATA2 (io), 183 DATA3 (io), 185 DATA4 (io), 186 DATA5 (io), 188 DATA6 (io), 190 DATA7 (io), 209 DEV_CLRn (io), 210 INPUT (in), 211 CLK (in), 212 INPUT (in), 213 DEV_OE (io), 236 nRS (io), 238 nWS (io), 239 CS (io), 240 nCS (io)
part C pins: 5 VCCINT (power), 10 GNDINT (power), 16 VCCIO (power), 22 GNDINT (power), 27 VCCINT (power), 32 GNDINT (power), 37 VCCIO (power), 42 GNDINT (power), 47 VCCINT (power), 52 GNDINT (power), 57 VCCIO (power), 69 GNDINT (power), 77 VCCIO (power), 85 GNDINT (power), 89 VCC_CKLK (power), 93 GND_CKLK (power), 96 VCCINT (power), 104 GNDINT (power), 112 VCCIO (power), 122 VCCINT (power), 125 GNDINT (power), 130 VCCINT (power), 135 GNDINT (power), 140 VCCIO (power), 145 GNDINT (power), 150 VCCINT (power), 155 GNDINT (power), 160 VCCIO (power), 165 GNDINT (power), 170 VCCINT (power), 176 GNDINT (power), 189 VCCIO (power), 197 GNDINT (power), 205 VCCIO (power), 216 GNDINT (power), 224 VCCIO (power), 232 GNDINT (power)

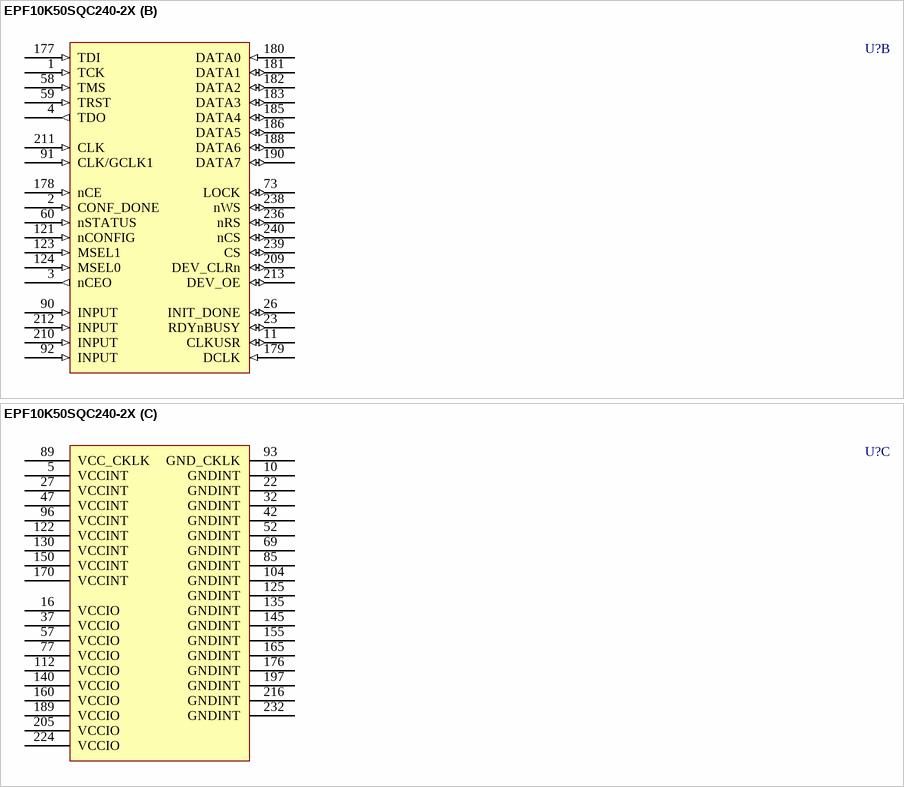
[diagram p151: symbol EPF10K50SQC240-2X]

## EPF10K50SQC240-2X
designator U?
FLEX EPF10K50S 2.5V Embedded PLD, 189 User IO Pins, 240-Pin PQFP, Speed Grade 2, Commercial Grade; Published: 17-Jul-2002; LatestRevisionDate: 13-Apr-2006; LatestRevisionNote: IPC-7351 Footprint Added.; DatasheetVersion: ver4.2, Jan-2003; PackageVersion: ver14.1, Oct-2005; PackageReference: PQFP240; Publisher: Altium Limited; PackageDescription: 240-Pin Plastic Quad Flat Pack (PQFP240); Code_JEDEC: MS-029-GA; ComponentLink1Description: Manufacturer Link; ComponentLink1URL: http://www.altera.com/products/devices/flex10k/f10-index.html; ComponentLink2Description: Datasheet; ComponentLink2URL: http://www.altera.com/literature/ds/dsf10ke.pdf
footprint PQFP240_N (Shrink QFP, 240-Leads, Body 32x32mm, Pitch 0.5mm, IPC Medium Density)
footprint PQFP240_L (Shrink QFP, 240-Leads, Body 32x32mm, Pitch 0.5mm, IPC High Density)
footprint PQFP240_M (Shrink QFP, 240-Leads, Body 32x32mm, Pitch 0.5mm, IPC Low Density)
3D model EPF10K50S-PQFP240 (240-Pin Plastic Quad Flat Pack (PQFP240))
part A pins: 6 I/O (io), 7 I/O (io), 8 I/O (io), 9 I/O (io), 12 I/O (io), 13 I/O (io), 14 I/O (io), 15 I/O (io), 17 I/O (io), 18 I/O (io), 19 I/O (io), 20 I/O (io), 21 I/O (io), 24 I/O (io), 25 I/O (io), 28 I/O (io), 29 I/O (io), 30 I/O (io), 31 I/O (io), 33 I/O (io), 34 I/O (io), 35 I/O (io), 36 I/O (io), 38 I/O (io), 39 I/O (io), 40 I/O (io), 41 I/O (io), 43 I/O (io), 44 I/O (io), 45 I/O (io), 46 I/O (io), 48 I/O (io), 49 I/O (io), 50 I/O (io), 51 I/O (io), 53 I/O (io), 54 I/O (io), 55 I/O (io), 56 I/O (io), 61 I/O (io), 62 I/O (io), 63 I/O (io), 64 I/O (io), 65 I/O (io), 66 I/O (io), 67 I/O (io), 68 I/O (io), 70 I/O (io), 71 I/O (io), 72 I/O (io), 74 I/O (io), 75 I/O (io), 76 I/O (io), 78 I/O (io), 79 I/O (io), 80 I/O (io), 81 I/O (io), 82 I/O (io), 83 I/O (io), 84 I/O (io), 86 I/O (io), 87 I/O (io), 88 I/O (io), 94 I/O (io), 95 I/O (io), 97 I/O (io), 98 I/O (io), 99 I/O (io), 100 I/O (io), 101 I/O (io), 102 I/O (io), 103 I/O (io), 105 I/O (io), 106 I/O (io), 107 I/O (io), 108 I/O (io), 109 I/O (io), 110 I/O (io), 111 I/O (io), 113 I/O (io), 114 I/O (io), 115 I/O (io), 116 I/O (io), 117 I/O (io), 118 I/O (io), 119 I/O (io), 120 I/O (io), 126 I/O (io), 127 I/O (io), 128 I/O (io), 129 I/O (io), 131 I/O (io), 132 I/O (io), 133 I/O (io), 134 I/O (io), 136 I/O (io), 137 I/O (io), 138 I/O (io), 139 I/O (io), 141 I/O (io), 142 I/O (io), 143 I/O (io), 144 I/O (io), 146 I/O (io), 147 I/O (io), 148 I/O (io), 149 I/O (io), 151 I/O (io), 152 I/O (io), 153 I/O (io), 154 I/O (io), 156 I/O (io), 157 I/O (io), 158 I/O (io), 159 I/O (io), 161 I/O (io), 162 I/O (io), 163 I/O (io), 164 I/O (io), 166 I/O (io), 167 I/O (io), 168 I/O (io), 169 I/O (io), 171 I/O (io), 172 I/O (io), 173 I/O (io), 174 I/O (io), 175 I/O (io), 184 I/O (io), 187 I/O (io), 191 I/O (io), 192 I/O (io), 193 I/O (io), 194 I/O (io), 195 I/O (io), 196 I/O (io), 198 I/O (io), 199 I/O (io), 200 I/O (io), 201 I/O (io), 202 I/O (io), 203 I/O (io), 204 I/O (io), 206 I/O (io), 207 I/O (io), 208 I/O (io), 214 I/O (io), 215 I/O (io), 217 I/O (io), 218 I/O (io), 219 I/O (io), 220 I/O (io), 221 I/O (io), 222 I/O (io), 223 I/O (io), 225 I/O (io), 226 I/O (io), 227 I/O (io), 228 I/O (io), 229 I/O (io), 230 I/O (io), 231 I/O (io), 233 I/O (io), 234 I/O (io), 235 I/O (io), 237 I/O (io)
part B pins: 1 TCK (in), 2 CONF_DONE (in), 3 nCEO (out), 4 TDO (out), 11 CLKUSR (io), 23 RDYnBUSY (io), 26 INIT_DONE (io), 58 TMS (in), 59 TRST (in), 60 nSTATUS (in), 73 LOCK (io), 90 INPUT (in), 91 CLK/GCLK1 (in), 92 INPUT (in), 121 nCONFIG (in), 123 MSEL1 (in), 124 MSEL0 (in), 177 TDI (in), 178 nCE (in), 179 DCLK (in), 180 DATA0 (in), 181 DATA1 (io), 182 DATA2 (io), 183 DATA3 (io), 185 DATA4 (io), 186 DATA5 (io), 188 DATA6 (io), 190 DATA7 (io), 209 DEV_CLRn (io), 210 INPUT (in), 211 CLK (in), 212 INPUT (in), 213 DEV_OE (io), 236 nRS (io), 238 nWS (io), 239 CS (io), 240 nCS (io)
part C pins: 5 VCCINT (power), 10 GNDINT (power), 16 VCCIO (power), 22 GNDINT (power), 27 VCCINT (power), 32 GNDINT (power), 37 VCCIO (power), 42 GNDINT (power), 47 VCCINT (power), 52 GNDINT (power), 57 VCCIO (power), 69 GNDINT (power), 77 VCCIO (power), 85 GNDINT (power), 89 VCC_CKLK (power), 93 GND_CKLK (power), 96 VCCINT (power), 104 GNDINT (power), 112 VCCIO (power), 122 VCCINT (power), 125 GNDINT (power), 130 VCCINT (power), 135 GNDINT (power), 140 VCCIO (power), 145 GNDINT (power), 150 VCCINT (power), 155 GNDINT (power), 160 VCCIO (power), 165 GNDINT (power), 170 VCCINT (power), 176 GNDINT (power), 189 VCCIO (power), 197 GNDINT (power), 205 VCCIO (power), 216 GNDINT (power), 224 VCCIO (power), 232 GNDINT (power)

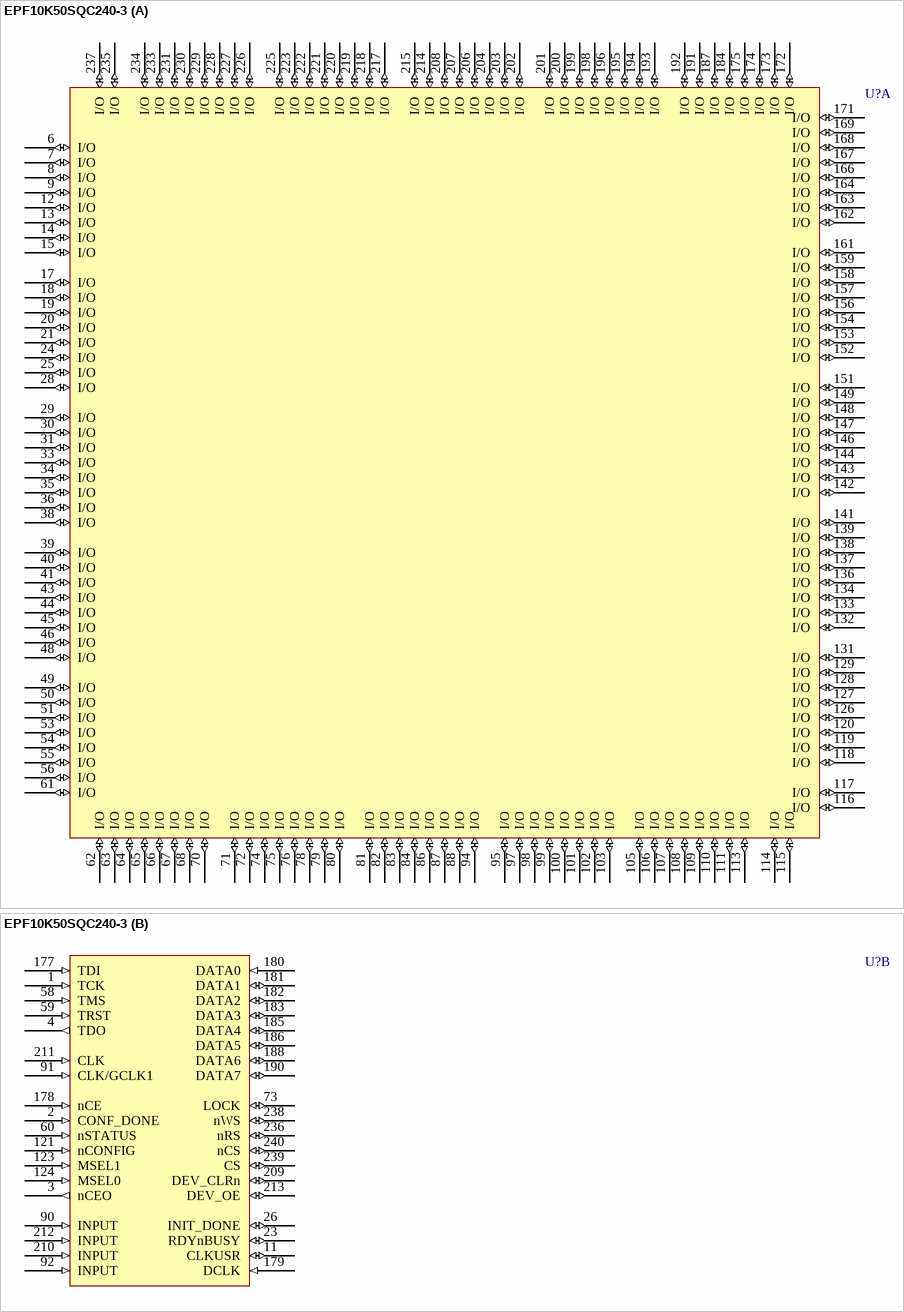
[diagram p152: symbol EPF10K50SQC240-3]

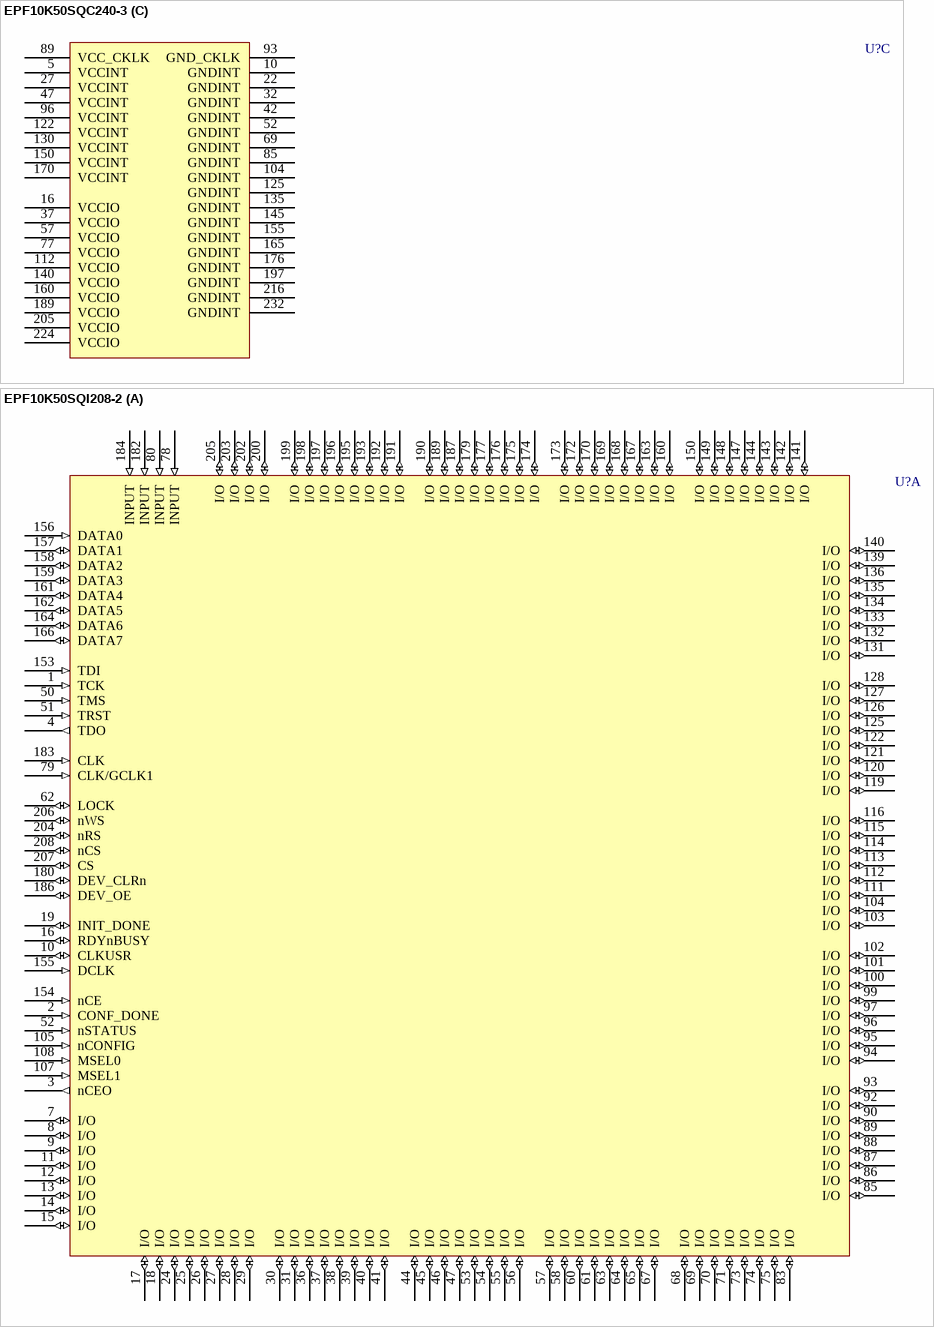
[diagram p153: symbols EPF10K50SQC240-3 to EPF10K50SQI208-2]

## EPF10K50SQC240-3
designator U?
FLEX EPF10K50S 2.5V Embedded PLD, 189 User IO Pins, 240-Pin PQFP, Speed Grade 3, Commercial Grade; Published: 17-Jul-2002; LatestRevisionDate: 13-Apr-2006; LatestRevisionNote: IPC-7351 Footprint Added.; DatasheetVersion: ver4.2, Jan-2003; PackageVersion: ver14.1, Oct-2005; PackageReference: PQFP240; Publisher: Altium Limited; PackageDescription: 240-Pin Plastic Quad Flat Pack (PQFP240); Code_JEDEC: MS-029-GA; ComponentLink1Description: Manufacturer Link; ComponentLink1URL: http://www.altera.com/products/devices/flex10k/f10-index.html; ComponentLink2Description: Datasheet; ComponentLink2URL: http://www.altera.com/literature/ds/dsf10ke.pdf
footprint PQFP240_N (Shrink QFP, 240-Leads, Body 32x32mm, Pitch 0.5mm, IPC Medium Density)
footprint PQFP240_L (Shrink QFP, 240-Leads, Body 32x32mm, Pitch 0.5mm, IPC High Density)
footprint PQFP240_M (Shrink QFP, 240-Leads, Body 32x32mm, Pitch 0.5mm, IPC Low Density)
3D model EPF10K50S-PQFP240 (240-Pin Plastic Quad Flat Pack (PQFP240))
part A pins: 6 I/O (io), 7 I/O (io), 8 I/O (io), 9 I/O (io), 12 I/O (io), 13 I/O (io), 14 I/O (io), 15 I/O (io), 17 I/O (io), 18 I/O (io), 19 I/O (io), 20 I/O (io), 21 I/O (io), 24 I/O (io), 25 I/O (io), 28 I/O (io), 29 I/O (io), 30 I/O (io), 31 I/O (io), 33 I/O (io), 34 I/O (io), 35 I/O (io), 36 I/O (io), 38 I/O (io), 39 I/O (io), 40 I/O (io), 41 I/O (io), 43 I/O (io), 44 I/O (io), 45 I/O (io), 46 I/O (io), 48 I/O (io), 49 I/O (io), 50 I/O (io), 51 I/O (io), 53 I/O (io), 54 I/O (io), 55 I/O (io), 56 I/O (io), 61 I/O (io), 62 I/O (io), 63 I/O (io), 64 I/O (io), 65 I/O (io), 66 I/O (io), 67 I/O (io), 68 I/O (io), 70 I/O (io), 71 I/O (io), 72 I/O (io), 74 I/O (io), 75 I/O (io), 76 I/O (io), 78 I/O (io), 79 I/O (io), 80 I/O (io), 81 I/O (io), 82 I/O (io), 83 I/O (io), 84 I/O (io), 86 I/O (io), 87 I/O (io), 88 I/O (io), 94 I/O (io), 95 I/O (io), 97 I/O (io), 98 I/O (io), 99 I/O (io), 100 I/O (io), 101 I/O (io), 102 I/O (io), 103 I/O (io), 105 I/O (io), 106 I/O (io), 107 I/O (io), 108 I/O (io), 109 I/O (io), 110 I/O (io), 111 I/O (io), 113 I/O (io), 114 I/O (io), 115 I/O (io), 116 I/O (io), 117 I/O (io), 118 I/O (io), 119 I/O (io), 120 I/O (io), 126 I/O (io), 127 I/O (io), 128 I/O (io), 129 I/O (io), 131 I/O (io), 132 I/O (io), 133 I/O (io), 134 I/O (io), 136 I/O (io), 137 I/O (io), 138 I/O (io), 139 I/O (io), 141 I/O (io), 142 I/O (io), 143 I/O (io), 144 I/O (io), 146 I/O (io), 147 I/O (io), 148 I/O (io), 149 I/O (io), 151 I/O (io), 152 I/O (io), 153 I/O (io), 154 I/O (io), 156 I/O (io), 157 I/O (io), 158 I/O (io), 159 I/O (io), 161 I/O (io), 162 I/O (io), 163 I/O (io), 164 I/O (io), 166 I/O (io), 167 I/O (io), 168 I/O (io), 169 I/O (io), 171 I/O (io), 172 I/O (io), 173 I/O (io), 174 I/O (io), 175 I/O (io), 184 I/O (io), 187 I/O (io), 191 I/O (io), 192 I/O (io), 193 I/O (io), 194 I/O (io), 195 I/O (io), 196 I/O (io), 198 I/O (io), 199 I/O (io), 200 I/O (io), 201 I/O (io), 202 I/O (io), 203 I/O (io), 204 I/O (io), 206 I/O (io), 207 I/O (io), 208 I/O (io), 214 I/O (io), 215 I/O (io), 217 I/O (io), 218 I/O (io), 219 I/O (io), 220 I/O (io), 221 I/O (io), 222 I/O (io), 223 I/O (io), 225 I/O (io), 226 I/O (io), 227 I/O (io), 228 I/O (io), 229 I/O (io), 230 I/O (io), 231 I/O (io), 233 I/O (io), 234 I/O (io), 235 I/O (io), 237 I/O (io)
part B pins: 1 TCK (in), 2 CONF_DONE (in), 3 nCEO (out), 4 TDO (out), 11 CLKUSR (io), 23 RDYnBUSY (io), 26 INIT_DONE (io), 58 TMS (in), 59 TRST (in), 60 nSTATUS (in), 73 LOCK (io), 90 INPUT (in), 91 CLK/GCLK1 (in), 92 INPUT (in), 121 nCONFIG (in), 123 MSEL1 (in), 124 MSEL0 (in), 177 TDI (in), 178 nCE (in), 179 DCLK (in), 180 DATA0 (in), 181 DATA1 (io), 182 DATA2 (io), 183 DATA3 (io), 185 DATA4 (io), 186 DATA5 (io), 188 DATA6 (io), 190 DATA7 (io), 209 DEV_CLRn (io), 210 INPUT (in), 211 CLK (in), 212 INPUT (in), 213 DEV_OE (io), 236 nRS (io), 238 nWS (io), 239 CS (io), 240 nCS (io)
part C pins: 5 VCCINT (power), 10 GNDINT (power), 16 VCCIO (power), 22 GNDINT (power), 27 VCCINT (power), 32 GNDINT (power), 37 VCCIO (power), 42 GNDINT (power), 47 VCCINT (power), 52 GNDINT (power), 57 VCCIO (power), 69 GNDINT (power), 77 VCCIO (power), 85 GNDINT (power), 89 VCC_CKLK (power), 93 GND_CKLK (power), 96 VCCINT (power), 104 GNDINT (power), 112 VCCIO (power), 122 VCCINT (power), 125 GNDINT (power), 130 VCCINT (power), 135 GNDINT (power), 140 VCCIO (power), 145 GNDINT (power), 150 VCCINT (power), 155 GNDINT (power), 160 VCCIO (power), 165 GNDINT (power), 170 VCCINT (power), 176 GNDINT (power), 189 VCCIO (power), 197 GNDINT (power), 205 VCCIO (power), 216 GNDINT (power), 224 VCCIO (power), 232 GNDINT (power)

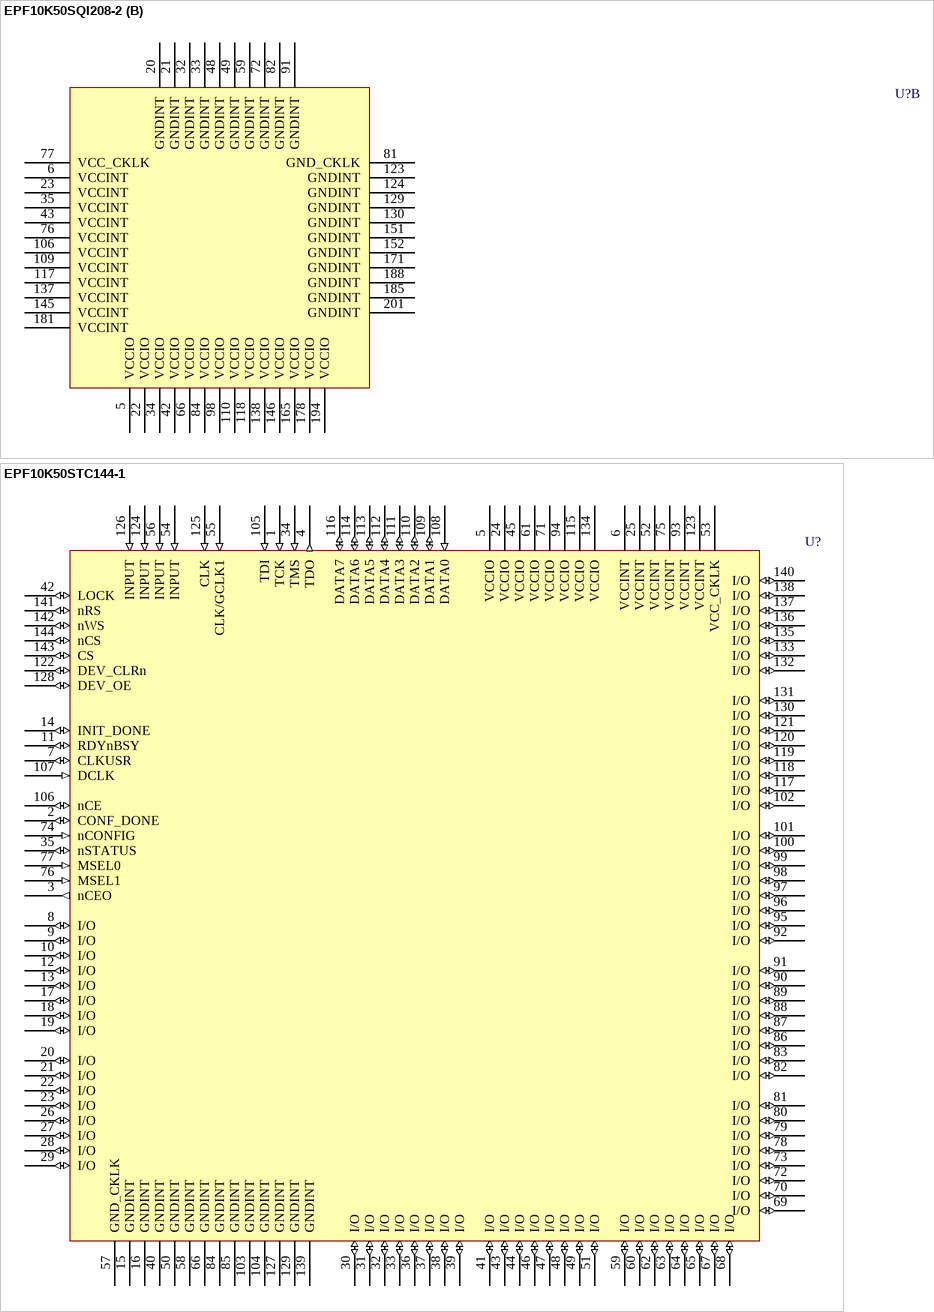
[diagram p154: symbols EPF10K50SQI208-2 to EPF10K50STC144-1]

## EPF10K50SQI208-2
designator U?
FLEX EPF10K50S 2.5V Embedded PLD, 147 User IO Pins, 208-Pin PQFP, Speed Grade 2, Industrial Grade; Published: 17-Jul-2002; LatestRevisionDate: 13-Apr-2006; LatestRevisionNote: IPC-7351 Footprint Added.; DatasheetVersion: ver4.2, Jan-2003; PackageVersion: ver14.1, Oct-2005; PackageReference: PQFP208; Publisher: Altium Limited; PackageDescription: 208-Pin Plastic Quad Flat Pack (PQFP208); Code_JEDEC: MS-029-FA-1; ComponentLink1Description: Manufacturer Link; ComponentLink1URL: http://www.altera.com/products/devices/flex10k/f10-index.html; ComponentLink2Description: Datasheet; ComponentLink2URL: http://www.altera.com/literature/ds/dsf10ke.pdf
footprint PQFP208_N (Shrink QFP, 208-Leads, Body 28x28mm, Pitch 0.5mm, IPC Medium Density)
footprint PQFP208_L (Shrink QFP, 208-Leads, Body 28x28mm, Pitch 0.5mm, IPC High Density)
footprint PQFP208_M (Shrink QFP, 208-Leads, Body 28x28mm, Pitch 0.5mm, IPC Low Density)
3D model EPF10K50S-PQFP208 (208-Pin Plastic Quad Flat Pack (PQFP208))
part A pins: 1 TCK (in), 2 CONF_DONE (in), 3 nCEO (out), 4 TDO (out), 7 I/O (io), 8 I/O (io), 9 I/O (io), 10 CLKUSR (io), 11 I/O (io), 12 I/O (io), 13 I/O (io), 14 I/O (io), 15 I/O (io), 16 RDYnBUSY (io), 17 I/O (io), 18 I/O (io), 19 INIT_DONE (io), 24 I/O (io), 25 I/O (io), 26 I/O (io), 27 I/O (io), 28 I/O (io), 29 I/O (io), 30 I/O (io), 31 I/O (io), 36 I/O (io), 37 I/O (io), 38 I/O (io), 39 I/O (io), 40 I/O (io), 41 I/O (io), 44 I/O (io), 45 I/O (io), 46 I/O (io), 47 I/O (io), 50 TMS (in), 51 TRST (in), 52 nSTATUS (in), 53 I/O (io), 54 I/O (io), 55 I/O (io), 56 I/O (io), 57 I/O (io), 58 I/O (io), 60 I/O (io), 61 I/O (io), 62 LOCK (io), 63 I/O (io), 64 I/O (io), 65 I/O (io), 67 I/O (io), 68 I/O (io), 69 I/O (io), 70 I/O (io), 71 I/O (io), 73 I/O (io), 74 I/O (io), 75 I/O (io), 78 INPUT (in), 79 CLK/GCLK1 (in), 80 INPUT (in), 83 I/O (io), 85 I/O (io), 86 I/O (io), 87 I/O (io), 88 I/O (io), 89 I/O (io), 90 I/O (io), 92 I/O (io), 93 I/O (io), 94 I/O (io), 95 I/O (io), 96 I/O (io), 97 I/O (io), 99 I/O (io), 100 I/O (io), 101 I/O (io), 102 I/O (io), 103 I/O (io), 104 I/O (io), 105 nCONFIG (in), 107 MSEL1 (in), 108 MSEL0 (in), 111 I/O (io), 112 I/O (io), 113 I/O (io), 114 I/O (io), 115 I/O (io), 116 I/O (io), 119 I/O (io), 120 I/O (io), 121 I/O (io), 122 I/O (io), 125 I/O (io), 126 I/O (io), 127 I/O (io), 128 I/O (io), 131 I/O (io), 132 I/O (io), 133 I/O (io), 134 I/O (io), 135 I/O (io), 136 I/O (io), 139 I/O (io), 140 I/O (io), 141 I/O (io), 142 I/O (io), 143 I/O (io), 144 I/O (io), 147 I/O (io), 148 I/O (io), 149 I/O (io), 150 I/O (io), 153 TDI (in), 154 nCE (in), 155 DCLK (in), 156 DATA0 (in), 157 DATA1 (io), 158 DATA2 (io), 159 DATA3 (io), 160 I/O (io), 161 DATA4 (io), 162 DATA5 (io), 163 I/O (io), 164 DATA6 (io), 166 DATA7 (io), 167 I/O (io), 168 I/O (io), 169 I/O (io), 170 I/O (io), 172 I/O (io), 173 I/O (io), 174 I/O (io), 175 I/O (io), 176 I/O (io), 177 I/O (io), 179 I/O (io), 180 DEV_CLRn (io), 182 INPUT (in), 183 CLK (in), 184 INPUT (in), 186 DEV_OE (io), 187 I/O (io), 189 I/O (io), 190 I/O (io), 191 I/O (io), 192 I/O (io), 193 I/O (io), 195 I/O (io), 196 I/O (io), 197 I/O (io), 198 I/O (io), 199 I/O (io), 200 I/O (io), 202 I/O (io), 203 I/O (io), 204 nRS (io), 205 I/O (io), 206 nWS (io), 207 CS (io), 208 nCS (io)
part B pins: 5 VCCIO (power), 6 VCCINT (power), 20 GNDINT (power), 21 GNDINT (power), 22 VCCIO (power), 23 VCCINT (power), 32 GNDINT (power), 33 GNDINT (power), 34 VCCIO (power), 35 VCCINT (power), 42 VCCIO (power), 43 VCCINT (power), 48 GNDINT (power), 49 GNDINT (power), 59 GNDINT (power), 66 VCCIO (power), 72 GNDINT (power), 76 VCCINT (power), 77 VCC_CKLK (power), 81 GND_CKLK (power), 82 GNDINT (power), 84 VCCIO (power), 91 GNDINT (power), 98 VCCIO (power), 106 VCCINT (power), 109 VCCINT (power), 110 VCCIO (power), 117 VCCINT (power), 118 VCCIO (power), 123 GNDINT (power), 124 GNDINT (power), 129 GNDINT (power), 130 GNDINT (power), 137 VCCINT (power), 138 VCCIO (power), 145 VCCINT (power), 146 VCCIO (power), 151 GNDINT (power), 152 GNDINT (power), 165 VCCIO (power), 171 GNDINT (power), 178 VCCIO (power), 181 VCCINT (power), 185 GNDINT (power), 188 GNDINT (power), 194 VCCIO (power), 201 GNDINT (power)

## EPF10K50STC144-1
designator U?
FLEX EPF10K50S 2.5V Embedded PLD, 102 User IO Pins, 144-Pin TQFP, Speed Grade 1, Commercial Grade; Published: 17-Jul-2002; LatestRevisionDate: 13-Apr-2006; LatestRevisionNote: IPC-7351 Footprint Added.; DatasheetVersion: Jan-2001; PackageVersion: ver14.1, Oct-2005; PackageReference: TQFP144; Publisher: Altium Limited; PackageDescription: 144-Pin Plastic Thin Quad Flat Pack (TQFP144); Code_JEDEC: MS-026-BFB; ComponentLink1Description: Manufacturer Link; ComponentLink1URL: http://www.altera.com/products/devices/flex10k/f10-index.html; ComponentLink2Description: Datasheet; ComponentLink2URL: http://www.altera.com/literature/ds/dsf10ke.pdf
footprint TQFP144_N (Thin QFP, 144-Leads, Body 20x20mm, Pitch 0.5mm, IPC Medium Density)
footprint TQFP144_L (Thin QFP, 144-Leads, Body 20x20mm, Pitch 0.5mm, IPC High Density)
footprint TQFP144_M (Thin QFP, 144-Leads, Body 20x20mm, Pitch 0.5mm, IPC Low Density)
3D model EPF10K50S-TQFP144 (144-Pin Plastic Thin Quad Flat Pack (TQFP144))
pins: 1 TCK (in), 2 CONF_DONE (io), 3 nCEO (out), 4 TDO (out), 5 VCCIO (power), 6 VCCINT (power), 7 CLKUSR (io), 8 I/O (io), 9 I/O (io), 10 I/O (io), 11 RDYnBSY (io), 12 I/O (io), 13 I/O (io), 14 INIT_DONE (io), 15 GNDINT (power), 16 GNDINT (power), 17 I/O (io), 18 I/O (io), 19 I/O (io), 20 I/O (io), 21 I/O (io), 22 I/O (io), 23 I/O (io), 24 VCCIO (power), 25 VCCINT (power), 26 I/O (io), 27 I/O (io), 28 I/O (io), 29 I/O (io), 30 I/O (io), 31 I/O (io), 32 I/O (io), 33 I/O (io), 34 TMS (in), 35 nSTATUS (io), 36 I/O (io), 37 I/O (io), 38 I/O (io), 39 I/O (io), 40 GNDINT (power), 41 I/O (io), 42 LOCK (io), 43 I/O (io), 44 I/O (io), 45 VCCIO (power), 46 I/O (io), 47 I/O (io), 48 I/O (io), 49 I/O (io), 50 GNDINT (power), 51 I/O (io), 52 VCCINT (power), 53 VCC_CKLK (power), 54 INPUT (in), 55 CLK/GCLK1 (in), 56 INPUT (in), 57 GND_CKLK (power), 58 GNDINT (power), 59 I/O (io), 60 I/O (io), 61 VCCIO (power), 62 I/O (io), 63 I/O (io), 64 I/O (io), 65 I/O (io), 66 GNDINT (power), 67 I/O (io), 68 I/O (io), 69 I/O (io), 70 I/O (io), 71 VCCIO (power), 72 I/O (io), 73 I/O (io), 74 nCONFIG (in), 75 VCCINT (power), 76 MSEL1 (in), 77 MSEL0 (in), 78 I/O (io), 79 I/O (io), 80 I/O (io), 81 I/O (io), 82 I/O (io), 83 I/O (io), 84 GNDINT (power), 85 GNDINT (power), 86 I/O (io), 87 I/O (io), 88 I/O (io), 89 I/O (io), 90 I/O (io), 91 I/O (io), 92 I/O (io), 93 VCCINT (power), 94 VCCIO (power), 95 I/O (io), 96 I/O (io), 97 I/O (io), 98 I/O (io), 99 I/O (io), 100 I/O (io), 101 I/O (io), 102 I/O (io), 103 GNDINT (power), 104 GNDINT (power), 105 TDI (in), 106 nCE (io), 107 DCLK (in), 108 DATA0 (in), 109 DATA1 (io), 110 DATA2 (io), 111 DATA3 (io), 112 DATA4 (io), 113 DATA5 (io), 114 DATA6 (io), 115 VCCIO (power), 116 DATA7 (io), 117 I/O (io), 118 I/O (io), 119 I/O (io), 120 I/O (io), 121 I/O (io), 122 DEV_CLRn (io), 123 VCCINT (power), 124 INPUT (in), 125 CLK (in), 126 INPUT (in), 127 GNDINT (power), 128 DEV_OE (io), 129 GNDINT (power), 130 I/O (io), 131 I/O (io), 132 I/O (io), 133 I/O (io), 134 VCCIO (power), 135 I/O (io), 136 I/O (io), 137 I/O (io), 138 I/O (io), 139 GNDINT (power), 140 I/O (io), 141 nRS (io), 142 nWS (io), 143 CS (io), 144 nCS (io)

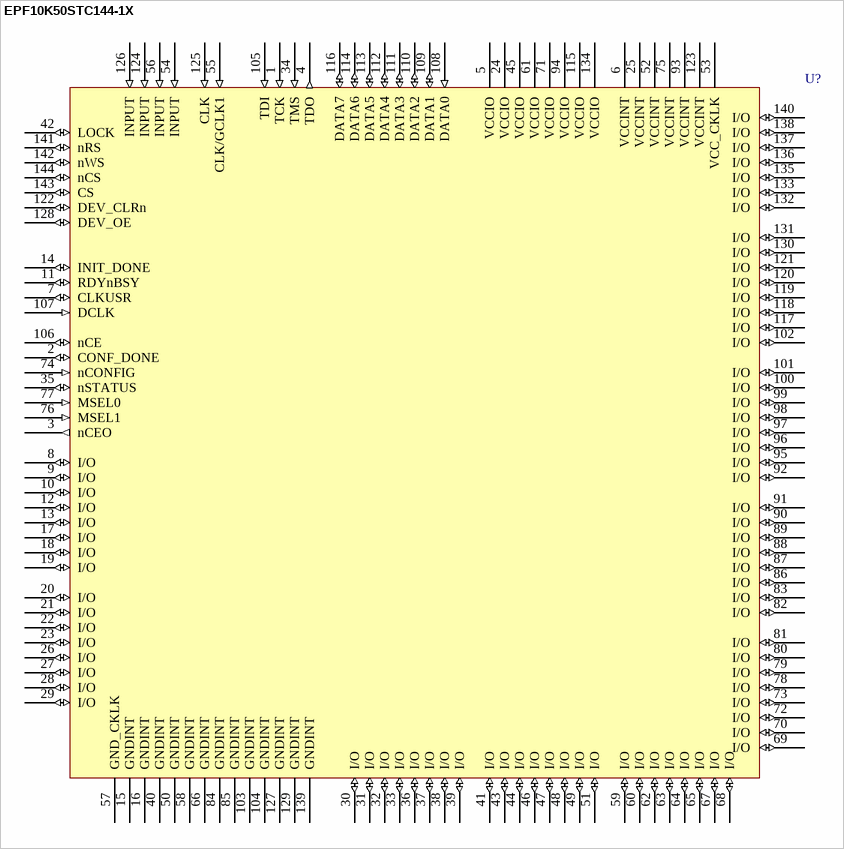
[diagram p155: symbol EPF10K50STC144-1X]